# Altium schematic symbol library 74xx.SchLib: 239 symbols (part 1 of 3)
Pins are listed as number, name and electrical type; pins without a type are passive.

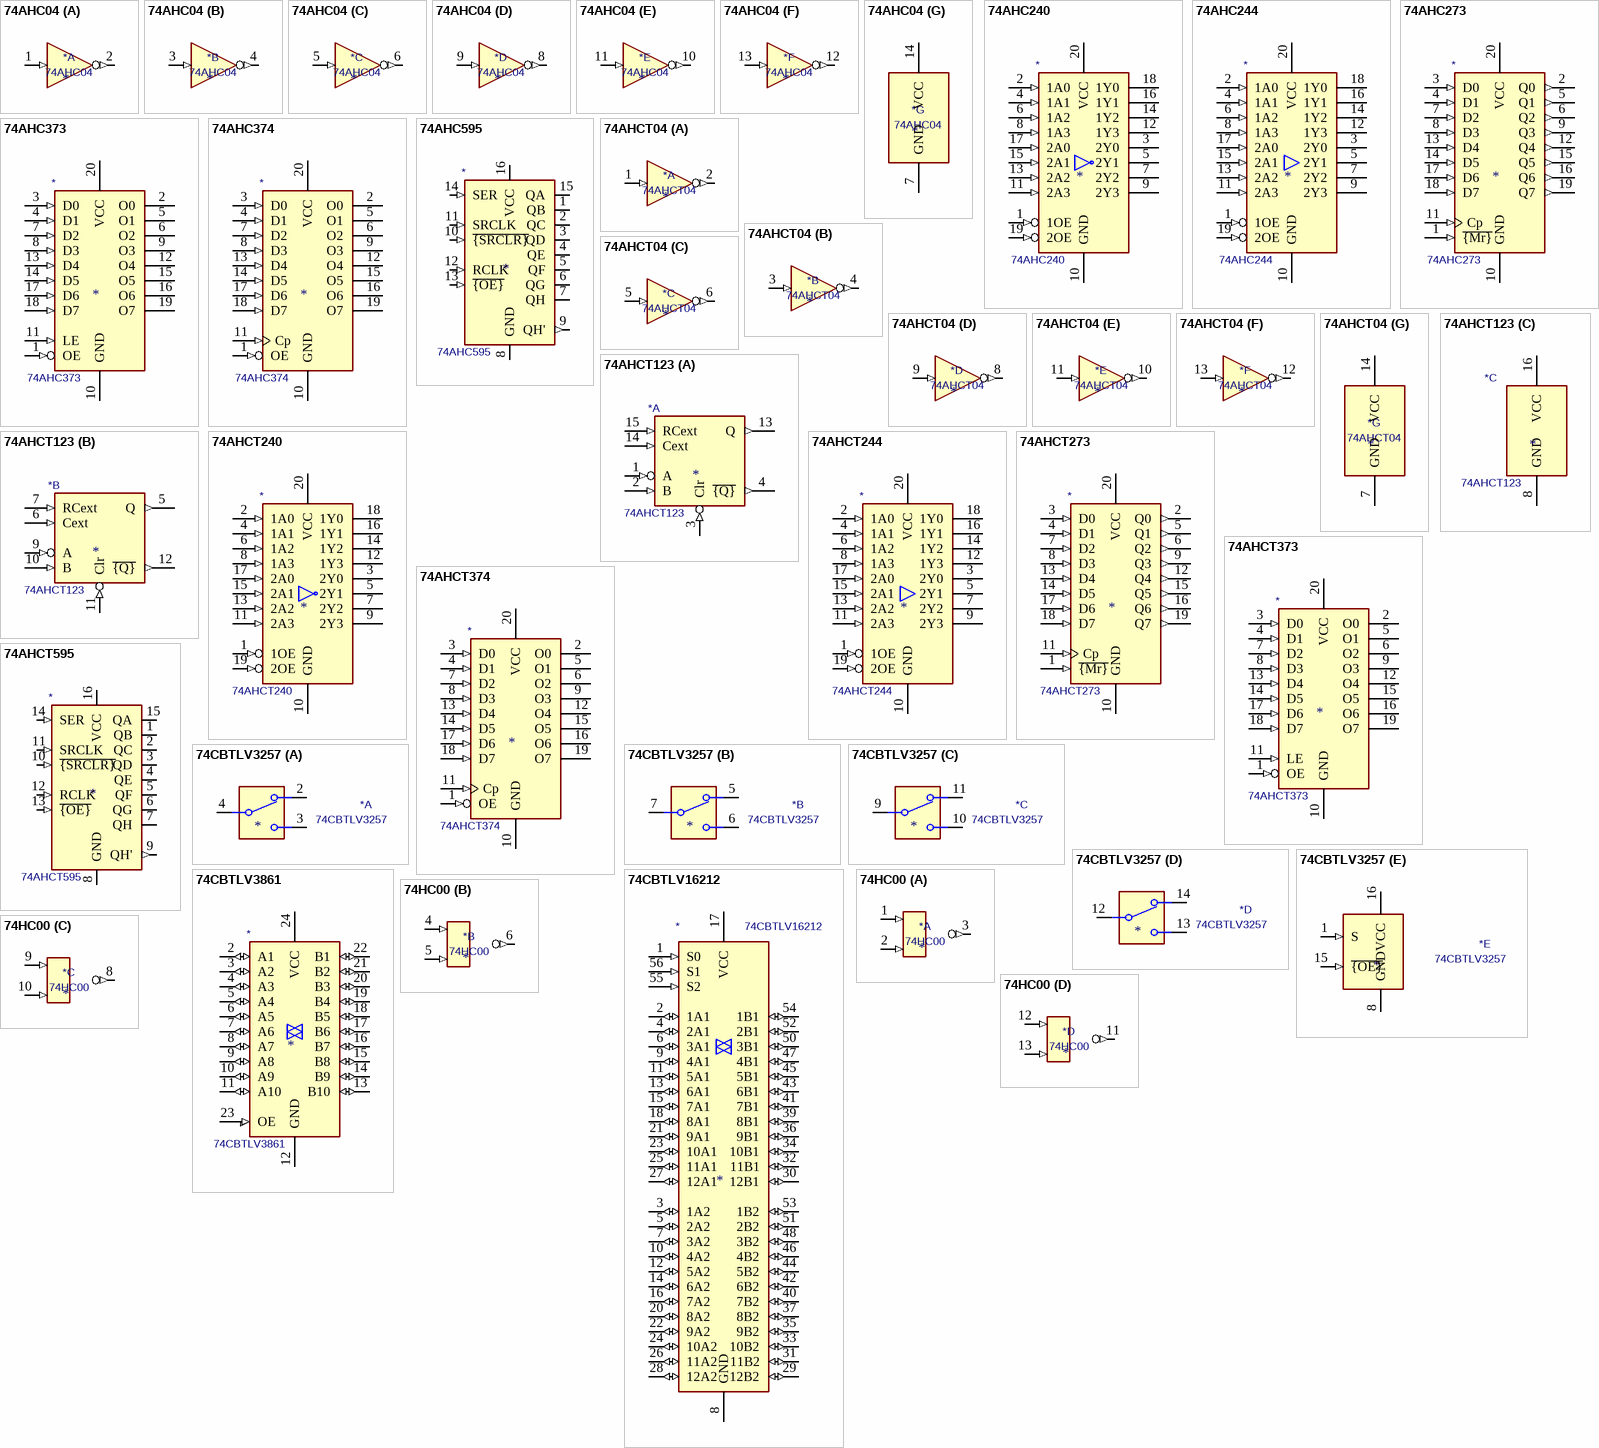
[diagram p0: symbols 74AHC04 to 74HC00]

## 74AHC04
designator *  value 74AHC04
ki_keywords: AHCMOS not inv; ki_description: Hex Inverter; ki_fp_filters: DIP*W7.62mm* SSOP?14* TSSOP?14*; Supplier: https://assets.nexperia.com/documents/data-sheet/74AHC_AHCT04.pdf
part A pins: 1 (in), 2 (out)
part B pins: 3 (in), 4 (out)
part C pins: 5 (in), 6 (out)
part D pins: 8 (out), 9 (in)
part E pins: 10 (out), 11 (in)
part F pins: 12 (out), 13 (in)
part G pins: 7 GND (power), 14 VCC (power)

## 74AHC240
designator *  value 74AHC240
ki_keywords: AHCMOS BUFFER 3State inv; ki_description: 8-bit Buffer/Line Driver 3-state Inverting; ki_fp_filters: DIP*W7.62mm* SOIC*7.5x12.8mm*P1.27mm* TSSOP*4.4x6.5mm*P0.65mm* SSOP*4.4x6.5mm*P0.65mm*; Supplier: https://www.ti.com/lit/ds/symlink/sn54ahc240.pdf
pins: 1 1OE (in), 2 1A0 (in), 3 2Y0 (hiz), 4 1A1 (in), 5 2Y1 (hiz), 6 1A2 (in), 7 2Y2 (hiz), 8 1A3 (in), 9 2Y3 (hiz), 10 GND (power), 11 2A3 (in), 12 1Y3 (hiz), 13 2A2 (in), 14 1Y2 (hiz), 15 2A1 (in), 16 1Y1 (hiz), 17 2A0 (in), 18 1Y0 (hiz), 19 2OE (in), 20 VCC (power)

## 74AHC244
designator *  value 74AHC244
ki_keywords: AHCMOS BUFFER 3State; ki_description: 8-bit Buffer/Line Driver 3-state; ki_fp_filters: TSSOP*4.4x6.5mm*P0.65mm* SSOP*4.4x6.5mm*P0.65mm*; Supplier: https://assets.nexperia.com/documents/data-sheet/74AHC_AHCT244.pdf
pins: 1 1OE (in), 2 1A0 (in), 3 2Y0 (hiz), 4 1A1 (in), 5 2Y1 (hiz), 6 1A2 (in), 7 2Y2 (hiz), 8 1A3 (in), 9 2Y3 (hiz), 10 GND (power), 11 2A3 (in), 12 1Y3 (hiz), 13 2A2 (in), 14 1Y2 (hiz), 15 2A1 (in), 16 1Y1 (hiz), 17 2A0 (in), 18 1Y0 (hiz), 19 2OE (in), 20 VCC (power)

## 74AHC273
designator *  value 74AHC273
ki_keywords: AHCMOS DFF DFF8; ki_description: 8-bit D Flip-Flop, reset; ki_fp_filters: DIP?20* SO?20* SOIC?20*; Supplier: https://assets.nexperia.com/documents/data-sheet/74AHC_AHCT273.pdf
pins: 1 ~{{Mr}} (in), 2 Q0 (out), 3 D0 (in), 4 D1 (in), 5 Q1 (out), 6 Q2 (out), 7 D2 (in), 8 D3 (in), 9 Q3 (out), 10 GND (power), 11 Cp (in), 12 Q4 (out), 13 D4 (in), 14 D5 (in), 15 Q5 (out), 16 Q6 (out), 17 D6 (in), 18 D7 (in), 19 Q7 (out), 20 VCC (power)

## 74AHC373
designator *  value 74AHC373
ki_keywords: AHCMOS REG DFF DFF8 LATCH; ki_description: 8-bit Latch, 3-state outputs; ki_fp_filters: DIP?20* SOIC?20* SO?20* SSOP?20* TSSOP?20*; Supplier: https://assets.nexperia.com/documents/data-sheet/74AHC373.pdf
pins: 1 OE (in), 2 O0 (hiz), 3 D0 (in), 4 D1 (in), 5 O1 (hiz), 6 O2 (hiz), 7 D2 (in), 8 D3 (in), 9 O3 (hiz), 10 GND (power), 11 LE (in), 12 O4 (hiz), 13 D4 (in), 14 D5 (in), 15 O5 (hiz), 16 O6 (hiz), 17 D6 (in), 18 D7 (in), 19 O7 (hiz), 20 VCC (power)

## 74AHC374
designator *  value 74AHC374
ki_keywords: AHCMOS DFF DFF8 REG 3State; ki_description: 8-bit Register, 3-state outputs; ki_fp_filters: DIP?20* SOIC?20* SO?20*; Supplier: https://assets.nexperia.com/documents/data-sheet/74AHC_AHCT374.pdf
pins: 1 OE (in), 2 O0 (hiz), 3 D0 (in), 4 D1 (in), 5 O1 (hiz), 6 O2 (hiz), 7 D2 (in), 8 D3 (in), 9 O3 (hiz), 10 GND (power), 11 Cp (in), 12 O4 (hiz), 13 D4 (in), 14 D5 (in), 15 O5 (hiz), 16 O6 (hiz), 17 D6 (in), 18 D7 (in), 19 O7 (hiz), 20 VCC (power)

## 74AHC595
designator *  value 74AHC595
ki_keywords: AHCMOS SR 3State; ki_description: 8-bit serial in/out Shift Register 3-State Outputs; ki_fp_filters: DIP*W7.62mm* SOIC*3.9x9.9mm*P1.27mm* TSSOP*4.4x5mm*P0.65mm* SOIC*5.3x10.2mm*P1.27mm* SOIC*7.5x10.3mm*P1.27mm*; Supplier: https://assets.nexperia.com/documents/data-sheet/74AHC_AHCT595.pdf
pins: 1 QB (hiz), 2 QC (hiz), 3 QD (hiz), 4 QE (hiz), 5 QF (hiz), 6 QG (hiz), 7 QH (hiz), 8 GND (power), 9 QH' (out), 10 ~{{SRCLR}} (in), 11 SRCLK (in), 12 RCLK (in), 13 ~{{OE}} (in), 14 SER (in), 15 QA (hiz), 16 VCC (power)

## 74AHCT04
designator *  value 74AHCT04
ki_keywords: AHCTMOS not inv; ki_description: Hex Inverter; ki_fp_filters: DIP*W7.62mm* SSOP?14* TSSOP?14*; Supplier: https://assets.nexperia.com/documents/data-sheet/74AHC_AHCT04.pdf
part A pins: 1 (in), 2 (out)
part B pins: 3 (in), 4 (out)
part C pins: 5 (in), 6 (out)
part D pins: 8 (out), 9 (in)
part E pins: 10 (out), 11 (in)
part F pins: 12 (out), 13 (in)
part G pins: 7 GND (power), 14 VCC (power)

## 74AHCT123
designator *  value 74AHCT123
ki_keywords: TTL monostable, multivibrator; ki_description: Dual retriggerable monostable multivibrator; ki_fp_filters: DIP?16*; Supplier: http://www.ti.com/lit/gpn/sn74ahct123a
part A pins: 1 A (in), 2 B (in), 3 Clr (in), 4 ~{{Q}} (out), 13 Q (out), 14 Cext (in), 15 RCext (in)
part B pins: 5 Q (out), 6 Cext (in), 7 RCext (in), 9 A (in), 10 B (in), 11 Clr (in), 12 ~{{Q}} (out)
part C pins: 8 GND (power), 16 VCC (power)

## 74AHCT240
designator *  value 74AHCT240
ki_keywords: AHCTMOS BUFFER 3State inv; ki_description: 8-bit Buffer/Line Driver 3-state Inverting; ki_fp_filters: DIP*W7.62mm* SOIC*7.5x12.8mm*P1.27mm* TSSOP*4.4x6.5mm*P0.65mm* SSOP*4.4x6.5mm*P0.65mm*; Supplier: https://assets.nexperia.com/documents/data-sheet/74AHCT240.pdf
pins: 1 1OE (in), 2 1A0 (in), 3 2Y0 (hiz), 4 1A1 (in), 5 2Y1 (hiz), 6 1A2 (in), 7 2Y2 (hiz), 8 1A3 (in), 9 2Y3 (hiz), 10 GND (power), 11 2A3 (in), 12 1Y3 (hiz), 13 2A2 (in), 14 1Y2 (hiz), 15 2A1 (in), 16 1Y1 (hiz), 17 2A0 (in), 18 1Y0 (hiz), 19 2OE (in), 20 VCC (power)

## 74AHCT244
designator *  value 74AHCT244
ki_keywords: AHCTMOS BUFFER 3State; ki_description: 8-bit Buffer/Line Driver 3-state; ki_fp_filters: TSSOP*4.4x6.5mm*P0.65mm* SSOP*4.4x6.5mm*P0.65mm*; Supplier: https://assets.nexperia.com/documents/data-sheet/74AHC_AHCT244.pdf
pins: 1 1OE (in), 2 1A0 (in), 3 2Y0 (hiz), 4 1A1 (in), 5 2Y1 (hiz), 6 1A2 (in), 7 2Y2 (hiz), 8 1A3 (in), 9 2Y3 (hiz), 10 GND (power), 11 2A3 (in), 12 1Y3 (hiz), 13 2A2 (in), 14 1Y2 (hiz), 15 2A1 (in), 16 1Y1 (hiz), 17 2A0 (in), 18 1Y0 (hiz), 19 2OE (in), 20 VCC (power)

## 74AHCT273
designator *  value 74AHCT273
ki_keywords: AHCTMOS DFF DFF8; ki_description: 8-bit D Flip-Flop, reset; ki_fp_filters: DIP?20* SO?20* SOIC?20*; Supplier: https://assets.nexperia.com/documents/data-sheet/74AHC_AHCT273.pdf
pins: 1 ~{{Mr}} (in), 2 Q0 (out), 3 D0 (in), 4 D1 (in), 5 Q1 (out), 6 Q2 (out), 7 D2 (in), 8 D3 (in), 9 Q3 (out), 10 GND (power), 11 Cp (in), 12 Q4 (out), 13 D4 (in), 14 D5 (in), 15 Q5 (out), 16 Q6 (out), 17 D6 (in), 18 D7 (in), 19 Q7 (out), 20 VCC (power)

## 74AHCT373
designator *  value 74AHCT373
ki_keywords: AHCTMOS REG DFF DFF8 LATCH; ki_description: 8-bit Latch, 3-state outputs; ki_fp_filters: DIP?20* SOIC?20* SO?20* SSOP?20* TSSOP?20*; Supplier: https://www.ti.com/lit/ds/symlink/sn74ahct373.pdf
pins: 1 OE (in), 2 O0 (hiz), 3 D0 (in), 4 D1 (in), 5 O1 (hiz), 6 O2 (hiz), 7 D2 (in), 8 D3 (in), 9 O3 (hiz), 10 GND (power), 11 LE (in), 12 O4 (hiz), 13 D4 (in), 14 D5 (in), 15 O5 (hiz), 16 O6 (hiz), 17 D6 (in), 18 D7 (in), 19 O7 (hiz), 20 VCC (power)

## 74AHCT374
designator *  value 74AHCT374
ki_keywords: AHCTMOS DFF DFF8 REG 3State; ki_description: 8-bit Register, 3-state outputs; ki_fp_filters: DIP?20* SOIC?20* SO?20*; Supplier: https://assets.nexperia.com/documents/data-sheet/74AHC_AHCT374.pdf
pins: 1 OE (in), 2 O0 (hiz), 3 D0 (in), 4 D1 (in), 5 O1 (hiz), 6 O2 (hiz), 7 D2 (in), 8 D3 (in), 9 O3 (hiz), 10 GND (power), 11 Cp (in), 12 O4 (hiz), 13 D4 (in), 14 D5 (in), 15 O5 (hiz), 16 O6 (hiz), 17 D6 (in), 18 D7 (in), 19 O7 (hiz), 20 VCC (power)

## 74AHCT595
designator *  value 74AHCT595
ki_keywords: AHCTMOS SR 3State; ki_description: 8-bit serial in/out Shift Register 3-State Outputs; ki_fp_filters: DIP*W7.62mm* SOIC*3.9x9.9mm*P1.27mm* TSSOP*4.4x5mm*P0.65mm* SOIC*5.3x10.2mm*P1.27mm* SOIC*7.5x10.3mm*P1.27mm*; Supplier: https://assets.nexperia.com/documents/data-sheet/74AHC_AHCT595.pdf
pins: 1 QB (hiz), 2 QC (hiz), 3 QD (hiz), 4 QE (hiz), 5 QF (hiz), 6 QG (hiz), 7 QH (hiz), 8 GND (power), 9 QH' (out), 10 ~{{SRCLR}} (in), 11 SRCLK (in), 12 RCLK (in), 13 ~{{OE}} (in), 14 SER (in), 15 QA (hiz), 16 VCC (power)

## 74CBTLV3257
designator *  value 74CBTLV3257
ki_keywords: mux demux low-voltage; ki_description: Quad 1:2 FET Multiplexer/Demultiplexer, Low-Voltage; ki_fp_filters: SSOP*3.9x4.9mm*P0.635mm* TSSOP*4.4x5mm*P0.65mm* TVSOP*4.4x3.6mm*P0.4mm* SOIC*3.9x9.9mm*P1.27mm*; Supplier: http://www.ti.com/lit/ds/symlink/sn74cbtlv3257.pdf
part A pins: 2, 3, 4
part B pins: 5, 6, 7
part C pins: 9, 10, 11
part D pins: 12, 13, 14
part E pins: 1 S (in), 8 GND (power), 15 ~{{OE}} (in), 16 VCC (power)

## 74CBTLV3861
designator *  value 74CBTLV3861
ki_keywords: bus; ki_description: Low-voltage 10-bit FET Bus switch; ki_fp_filters: DIP?24*; Supplier: http://www.ti.com/lit/gpn/sn74cbtlv3861
pins: 2 A1 (io), 3 A2 (io), 4 A3 (io), 5 A4 (io), 6 A5 (io), 7 A6 (io), 8 A7 (io), 9 A8 (io), 10 A9 (io), 11 A10 (io), 12 GND (power), 13 B10 (io), 14 B9 (io), 15 B8 (io), 16 B7 (io), 17 B6 (io), 18 B5 (io), 19 B4 (io), 20 B3 (io), 21 B2 (io), 22 B1 (io), 23 OE (in), 24 VCC (power)

## 74CBTLV16212
designator *  value 74CBTLV16212
ki_keywords: bus; ki_description: Low-voltage 24-bit FET Bus-exchange switch; ki_fp_filters: SSOP* TSSOP*; Supplier: https://www.ti.com/lit/ds/symlink/sn74cbtlv16212.pdf
pins: 1 S0 (in), 2 1A1 (io), 3 1A2 (io), 4 2A1 (io), 5 2A2 (io), 6 3A1 (io), 7 3A2 (io), 8 GND (power), 9 4A1 (io), 10 4A2 (io), 11 5A1 (io), 12 5A2 (io), 13 6A1 (io), 14 6A2 (io), 15 7A1 (io), 16 7A2 (io), 17 VCC (power), 18 8A1 (io), 19 GND hidden, 20 8A2 (io), 21 9A1 (io), 22 9A2 (io), 23 10A1 (io), 24 10A2 (io), 25 11A1 (io), 26 11A2 (io), 27 12A1 (io), 28 12A2 (io), 29 12B2 (io), 30 12B1 (io), 31 11B2 (io), 32 11B1 (io), 33 10B2 (io), 34 10B1 (io), 35 9B2 (io), 36 9B1 (io), 37 8B2 (io), 38 GND hidden, 39 8B1 (io), 40 7B2 (io), 41 7B1 (io), 42 6B2 (io), 43 6B1 (io), 44 5B2 (io), 45 5B1 (io), 46 4B2 (io), 47 4B1 (io), 48 3B2 (io), 49 GND hidden, 50 3B1 (io), 51 2B2 (io), 52 2B1 (io), 53 1B2 (io), 54 1B1 (io), 55 S2 (in), 56 S1 (in)

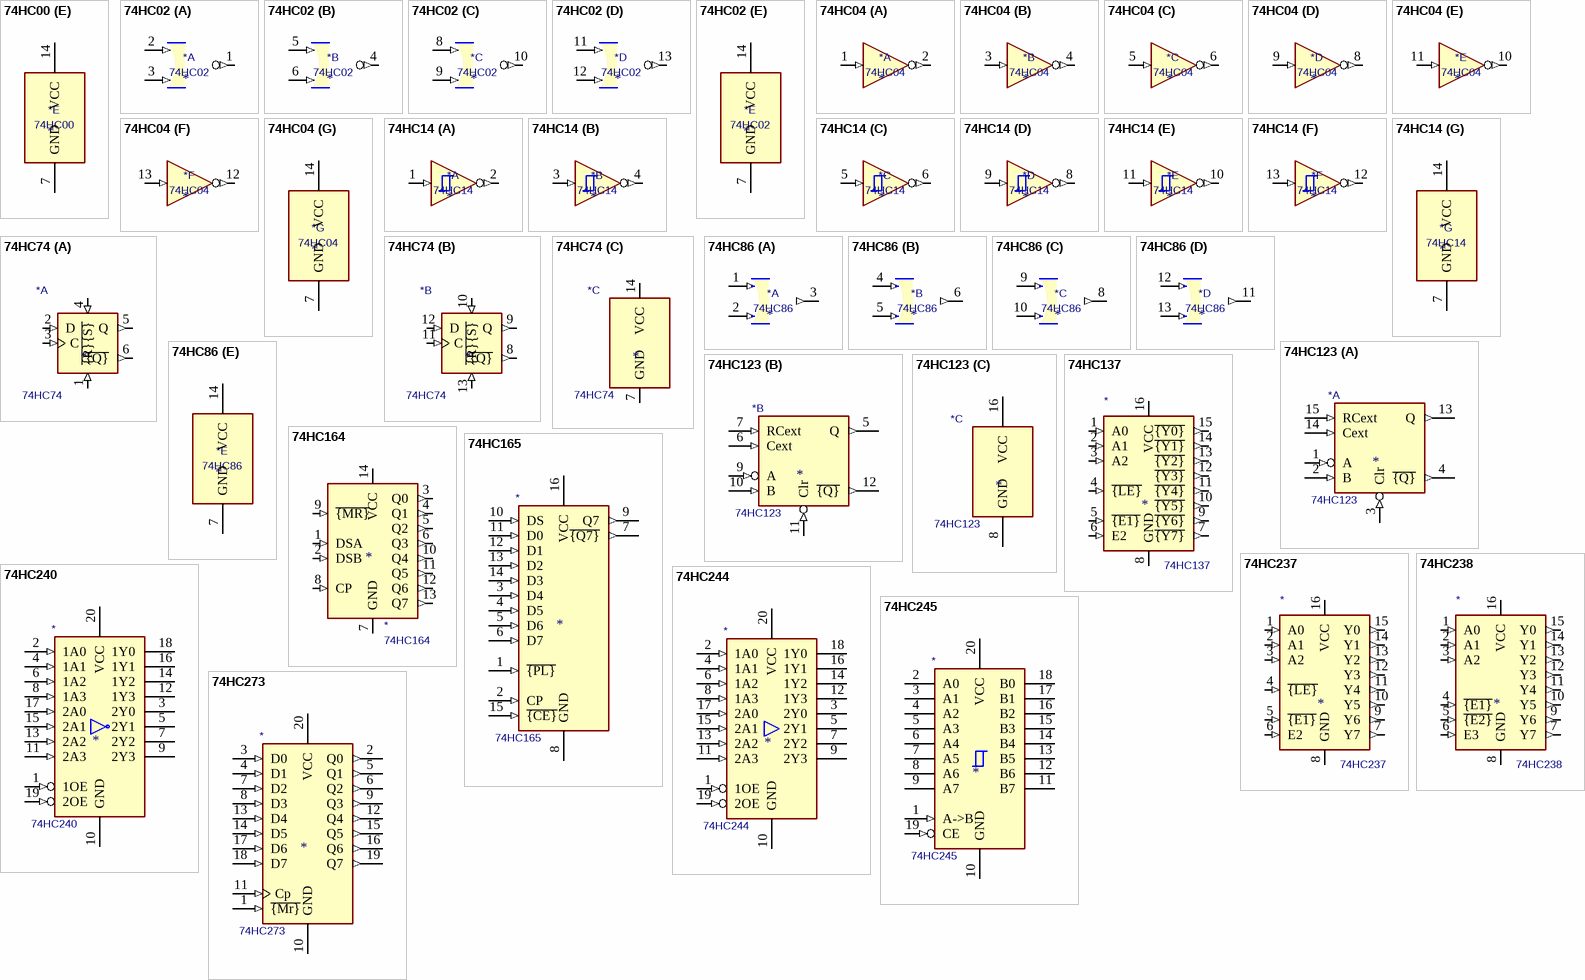
[diagram p1: symbols 74HC00 to 74HC273]

## 74HC00
designator *  value 74HC00
ki_keywords: HCMOS nand 2-input; ki_description: quad 2-input NAND gate; ki_fp_filters: DIP*W7.62mm* SO14*; Supplier: http://www.ti.com/lit/gpn/sn74hc00
part A pins: 1 (in), 2 (in), 3 (out)
part B pins: 4 (in), 5 (in), 6 (out)
part C pins: 8 (out), 9 (in), 10 (in)
part D pins: 11 (out), 12 (in), 13 (in)
part E pins: 7 GND (power), 14 VCC (power)
1 alternate drawing of the same symbol

## 74HC02
designator *  value 74HC02
ki_keywords: HCMOS Nor2; ki_description: quad 2-input NOR gate; ki_fp_filters: SO14* DIP*W7.62mm*; Supplier: http://www.ti.com/lit/gpn/sn74hc02
part A pins: 1 (out), 2 (in), 3 (in)
part B pins: 4 (out), 5 (in), 6 (in)
part C pins: 8 (in), 9 (in), 10 (out)
part D pins: 11 (in), 12 (in), 13 (out)
part E pins: 7 GND (power), 14 VCC (power)
1 alternate drawing of the same symbol

## 74HC04
designator *  value 74HC04
ki_keywords: HCMOS not inv; ki_description: Hex Inverter; ki_fp_filters: DIP*W7.62mm* SSOP?14* TSSOP?14*; Supplier: https://assets.nexperia.com/documents/data-sheet/74HC_HCT04.pdf
part A pins: 1 (in), 2 (out)
part B pins: 3 (in), 4 (out)
part C pins: 5 (in), 6 (out)
part D pins: 8 (out), 9 (in)
part E pins: 10 (out), 11 (in)
part F pins: 12 (out), 13 (in)
part G pins: 7 GND (power), 14 VCC (power)

## 74HC14
designator *  value 74HC14
ki_keywords: HCMOS not inverter; ki_description: Hex inverter schmitt trigger; ki_fp_filters: DIP*W7.62mm*; Supplier: http://www.ti.com/lit/gpn/sn74HC14
part A pins: 1 (in), 2 (out)
part B pins: 3 (in), 4 (out)
part C pins: 5 (in), 6 (out)
part D pins: 8 (out), 9 (in)
part E pins: 10 (out), 11 (in)
part F pins: 12 (out), 13 (in)
part G pins: 7 GND (power), 14 VCC (power)

## 74HC74
designator *  value 74HC74
ki_keywords: TTL DFF; ki_description: Dual D Flip-flop, Set & Reset; ki_fp_filters: DIP*W7.62mm*; Supplier: 74xx/74hc_hct74.pdf
part A pins: 1 ~{{R}} (in), 2 D (in), 3 C (in), 4 ~{{S}} (in), 5 Q (out), 6 ~{{Q}} (out)
part B pins: 8 ~{{Q}} (out), 9 Q (out), 10 ~{{S}} (in), 11 C (in), 12 D (in), 13 ~{{R}} (in)
part C pins: 7 GND (power), 14 VCC (power)

## 74HC86
designator *  value 74HC86
ki_keywords: TTL XOR2; ki_description: Quad 2-input XOR; ki_fp_filters: DIP*W7.62mm*; Supplier: http://www.ti.com/lit/gpn/sn74HC86
part A pins: 1 (in), 2 (in), 3 (out)
part B pins: 4 (in), 5 (in), 6 (out)
part C pins: 8 (out), 9 (in), 10 (in)
part D pins: 11 (out), 12 (in), 13 (in)
part E pins: 7 GND (power), 14 VCC (power)

## 74HC123
designator *  value 74HC123
ki_keywords: TTL monostable, multivibrator; ki_description: Dual retriggerable monostable multivibrator; ki_fp_filters: DIP?16*; Supplier: https://assets.nexperia.com/documents/data-sheet/74HC_HCT123.pdf
part A pins: 1 A (in), 2 B (in), 3 Clr (in), 4 ~{{Q}} (out), 13 Q (out), 14 Cext (in), 15 RCext (in)
part B pins: 5 Q (out), 6 Cext (in), 7 RCext (in), 9 A (in), 10 B (in), 11 Clr (in), 12 ~{{Q}} (out)
part C pins: 8 GND (power), 16 VCC (power)

## 74HC137
designator *  value 74HC137
ki_keywords: demux; ki_description: 3-to-8 line decoder/multiplexer with address latches, DIP-16/SOIC-16/SSOP-16; ki_fp_filters: DIP*W7.62mm* SOIC*3.9x9.9mm*P1.27mm* SSOP*5.3x6.2mm*P0.65mm*; Supplier: http://www.ti.com/lit/ds/symlink/cd74hc237.pdf
pins: 1 A0 (in), 2 A1 (in), 3 A2 (in), 4 ~{{LE}} (in), 5 ~{{E1}} (in), 6 E2 (in), 7 ~{{Y7}} (out), 8 GND (power), 9 ~{{Y6}} (out), 10 ~{{Y5}} (out), 11 ~{{Y4}} (out), 12 ~{{Y3}} (out), 13 ~{{Y2}} (out), 14 ~{{Y1}} (out), 15 ~{{Y0}} (out), 16 VCC (power)

## 74HC164
designator *  value 74HC164
ki_keywords: 8-bit shift register; ki_description: 8-bit serial-in parallel-out shift register; ki_fp_filters: SOIC*3.9x8.7*P1.27mm* ?SSOP*P0.65mm* DIP*W7.62mm*; Supplier: https://assets.nexperia.com/documents/data-sheet/74HC_HCT164.pdf
pins: 1 DSA (in), 2 DSB (in), 3 Q0 (out), 4 Q1 (out), 5 Q2 (out), 6 Q3 (out), 7 GND (power), 8 CP (in), 9 ~{{MR}} (in), 10 Q4 (out), 11 Q5 (out), 12 Q6 (out), 13 Q7 (out), 14 VCC (power)

## 74HC165
designator *  value 74HC165
ki_keywords: 8 bit shift register parallel load cmos; ki_description: Shift Register, 8-bit, Parallel Load; ki_fp_filters: DIP?16* SO*16*3.9x9.9mm*P1.27mm* SSOP*16*5.3x6.2mm*P0.65mm* TSSOP*16*4.4x5mm*P0.65*; Supplier: https://assets.nexperia.com/documents/data-sheet/74HC_HCT165.pdf
pins: 1 ~{{PL}} (in), 2 CP (in), 3 D4 (in), 4 D5 (in), 5 D6 (in), 6 D7 (in), 7 ~{{Q7}} (out), 8 GND (power), 9 Q7 (out), 10 DS (in), 11 D0 (in), 12 D1 (in), 13 D2 (in), 14 D3 (in), 15 ~{{CE}} (in), 16 VCC (power)

## 74HC237
designator *  value 74HC237
ki_keywords: demux; ki_description: 3-to-8 line decoder/multiplexer with address latches, DIP-16/SOIC-16/SSOP-16; ki_fp_filters: DIP*W7.62mm* SOIC*3.9x9.9mm*P1.27mm* SSOP*5.3x6.2mm*P0.65mm*; Supplier: http://www.ti.com/lit/ds/symlink/cd74hc237.pdf
pins: 1 A0 (in), 2 A1 (in), 3 A2 (in), 4 ~{{LE}} (in), 5 ~{{E1}} (in), 6 E2 (in), 7 Y7 (out), 8 GND (power), 9 Y6 (out), 10 Y5 (out), 11 Y4 (out), 12 Y3 (out), 13 Y2 (out), 14 Y1 (out), 15 Y0 (out), 16 VCC (power)

## 74HC238
designator *  value 74HC238
ki_keywords: demux; ki_description: 3-to-8 line decoder/multiplexer, DIP-16/SOIC-16/SSOP-16; ki_fp_filters: DIP*W7.62mm* SOIC*3.9x9.9mm*P1.27mm* TSSOP*4.4x5mm*P0.65mm*; Supplier: https://www.ti.com/lit/ds/symlink/cd74hc238.pdf
pins: 1 A0 (in), 2 A1 (in), 3 A2 (in), 4 ~{{E1}} (in), 5 ~{{E2}} (in), 6 E3 (in), 7 Y7 (out), 8 GND (power), 9 Y6 (out), 10 Y5 (out), 11 Y4 (out), 12 Y3 (out), 13 Y2 (out), 14 Y1 (out), 15 Y0 (out), 16 VCC (power)

## 74HC240
designator *  value 74HC240
ki_keywords: HCMOS BUFFER 3State inv; ki_description: 8-bit Buffer/Line Driver 3-state Inverting; ki_fp_filters: DIP*W7.62mm* SOIC*7.5x12.8mm*P1.27mm* TSSOP*4.4x6.5mm*P0.65mm* SSOP*4.4x6.5mm*P0.65mm*; Supplier: https://assets.nexperia.com/documents/data-sheet/74HC_HCT240.pdf
pins: 1 1OE (in), 2 1A0 (in), 3 2Y0 (hiz), 4 1A1 (in), 5 2Y1 (hiz), 6 1A2 (in), 7 2Y2 (hiz), 8 1A3 (in), 9 2Y3 (hiz), 10 GND (power), 11 2A3 (in), 12 1Y3 (hiz), 13 2A2 (in), 14 1Y2 (hiz), 15 2A1 (in), 16 1Y1 (hiz), 17 2A0 (in), 18 1Y0 (hiz), 19 2OE (in), 20 VCC (power)

## 74HC244
designator *  value 74HC244
ki_keywords: HCMOS BUFFER 3State; ki_description: 8-bit Buffer/Line Driver 3-state; ki_fp_filters: TSSOP*4.4x6.5mm*P0.65mm* SSOP*4.4x6.5mm*P0.65mm*; Supplier: https://assets.nexperia.com/documents/data-sheet/74HC_HCT244.pdf
pins: 1 1OE (in), 2 1A0 (in), 3 2Y0 (hiz), 4 1A1 (in), 5 2Y1 (hiz), 6 1A2 (in), 7 2Y2 (hiz), 8 1A3 (in), 9 2Y3 (hiz), 10 GND (power), 11 2A3 (in), 12 1Y3 (hiz), 13 2A2 (in), 14 1Y2 (hiz), 15 2A1 (in), 16 1Y1 (hiz), 17 2A0 (in), 18 1Y0 (hiz), 19 2OE (in), 20 VCC (power)

## 74HC245
designator *  value 74HC245
ki_keywords: HCMOS BUS 3State; ki_description: Octal BUS Transceivers, 3-State outputs; ki_fp_filters: DIP?20*; Supplier: http://www.ti.com/lit/gpn/sn74HC245
pins: 1 A->B (in), 2 A0 (hiz), 3 A1 (hiz), 4 A2 (hiz), 5 A3 (hiz), 6 A4 (hiz), 7 A5 (hiz), 8 A6 (hiz), 9 A7 (hiz), 10 GND (power), 11 B7 (hiz), 12 B6 (hiz), 13 B5 (hiz), 14 B4 (hiz), 15 B3 (hiz), 16 B2 (hiz), 17 B1 (hiz), 18 B0 (hiz), 19 CE (in), 20 VCC (power)

## 74HC273
designator *  value 74HC273
ki_keywords: HCMOS DFF DFF8; ki_description: 8-bit D Flip-Flop, reset; ki_fp_filters: DIP?20* SO?20* SOIC?20*; Supplier: https://assets.nexperia.com/documents/data-sheet/74HC_HCT273.pdf
pins: 1 ~{{Mr}} (in), 2 Q0 (out), 3 D0 (in), 4 D1 (in), 5 Q1 (out), 6 Q2 (out), 7 D2 (in), 8 D3 (in), 9 Q3 (out), 10 GND (power), 11 Cp (in), 12 Q4 (out), 13 D4 (in), 14 D5 (in), 15 Q5 (out), 16 Q6 (out), 17 D6 (in), 18 D7 (in), 19 Q7 (out), 20 VCC (power)

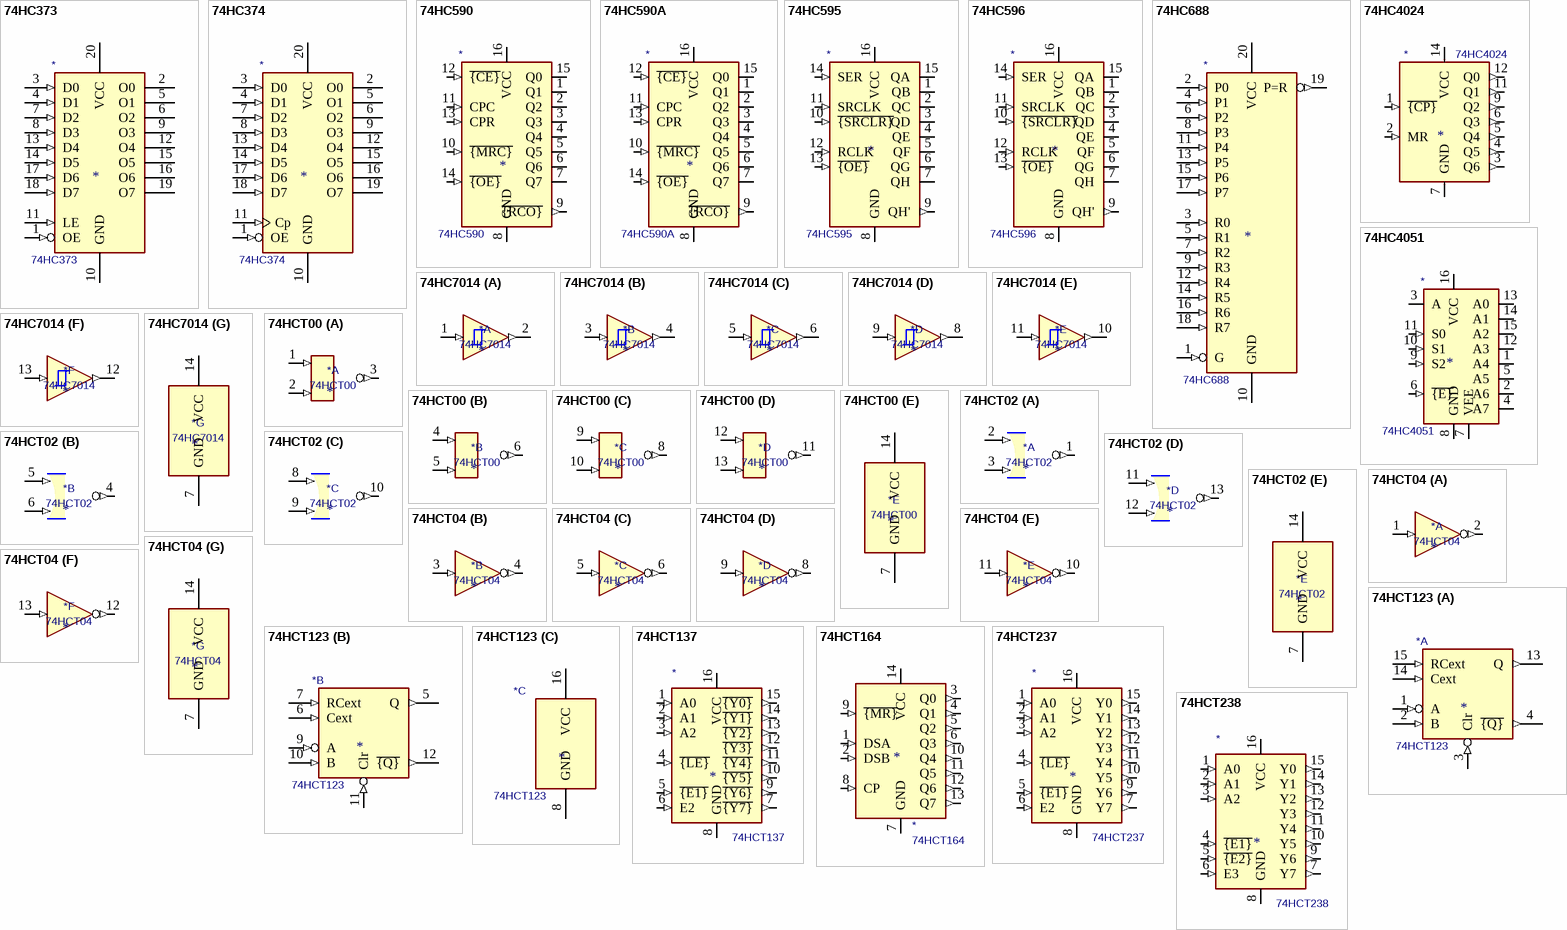
[diagram p2: symbols 74HC373 to 74HCT238]

## 74HC373
designator *  value 74HC373
ki_keywords: HCMOS REG DFF DFF8 LATCH; ki_description: 8-bit Latch, 3-state outputs; ki_fp_filters: DIP?20* SOIC?20* SO?20* SSOP?20* TSSOP?20*; Supplier: https://www.ti.com/lit/ds/symlink/cd54hc373.pdf
pins: 1 OE (in), 2 O0 (hiz), 3 D0 (in), 4 D1 (in), 5 O1 (hiz), 6 O2 (hiz), 7 D2 (in), 8 D3 (in), 9 O3 (hiz), 10 GND (power), 11 LE (in), 12 O4 (hiz), 13 D4 (in), 14 D5 (in), 15 O5 (hiz), 16 O6 (hiz), 17 D6 (in), 18 D7 (in), 19 O7 (hiz), 20 VCC (power)

## 74HC374
designator *  value 74HC374
ki_keywords: HCMOS DFF DFF8 REG 3State; ki_description: 8-bit Register, 3-state outputs; ki_fp_filters: DIP?20* SOIC?20* SO?20*; Supplier: https://www.ti.com/lit/ds/symlink/cd74hct374.pdf
pins: 1 OE (in), 2 O0 (hiz), 3 D0 (in), 4 D1 (in), 5 O1 (hiz), 6 O2 (hiz), 7 D2 (in), 8 D3 (in), 9 O3 (hiz), 10 GND (power), 11 Cp (in), 12 O4 (hiz), 13 D4 (in), 14 D5 (in), 15 O5 (hiz), 16 O6 (hiz), 17 D6 (in), 18 D7 (in), 19 O7 (hiz), 20 VCC (power)

## 74HC590
designator *  value 74HC590
ki_keywords: HCMOS Counter 3State; ki_description: 8-bit Binary Counter with Output Register 3-State Outputs, SOIC-16/TSSOP-16; ki_fp_filters: DIP*W7.62mm* SOIC*3.9x9.9mm*P1.27mm* TSSOP*4.4x5mm*P0.65mm* SOIC*5.3x10.2mm*P1.27mm* SOIC*7.5x10.3mm*P1.27mm*; Supplier: https://assets.nexperia.com/documents/data-sheet/74HC590.pdf
pins: 1 Q1 (hiz), 2 Q2 (hiz), 3 Q3 (hiz), 4 Q4 (hiz), 5 Q5 (hiz), 6 Q6 (hiz), 7 Q7 (hiz), 8 GND (power), 9 ~{{RCO}} (out), 10 ~{{MRC}} (in), 11 CPC (in), 12 ~{{CE}} (in), 13 CPR (in), 14 ~{{OE}} (in), 15 Q0 (hiz), 16 VCC (power)

## 74HC590A
designator *  value 74HC590A
ki_keywords: HCMOS Counter 3State; ki_description: 8-bit Binary Counter with Output Register 3-State Outputs, DIP-16/SOIC-16/SOIC-16W; ki_fp_filters: DIP*W7.62mm* SOIC*3.9x9.9mm*P1.27mm* TSSOP*4.4x5mm*P0.65mm* SOIC*5.3x10.2mm*P1.27mm* SOIC*7.5x10.3mm*P1.27mm*; Supplier: http://www.ti.com/lit/ds/symlink/sn74hc590a.pdf
pins: 1 Q1 (hiz), 2 Q2 (hiz), 3 Q3 (hiz), 4 Q4 (hiz), 5 Q5 (hiz), 6 Q6 (hiz), 7 Q7 (hiz), 8 GND (power), 9 ~{{RCO}} (out), 10 ~{{MRC}} (in), 11 CPC (in), 12 ~{{CE}} (in), 13 CPR (in), 14 ~{{OE}} (in), 15 Q0 (hiz), 16 VCC (power)

## 74HC595
designator *  value 74HC595
ki_keywords: HCMOS SR 3State; ki_description: 8-bit serial in/out Shift Register 3-State Outputs; ki_fp_filters: DIP*W7.62mm* SOIC*3.9x9.9mm*P1.27mm* TSSOP*4.4x5mm*P0.65mm* SOIC*5.3x10.2mm*P1.27mm* SOIC*7.5x10.3mm*P1.27mm*; Supplier: http://www.ti.com/lit/ds/symlink/sn74hc595.pdf
pins: 1 QB (hiz), 2 QC (hiz), 3 QD (hiz), 4 QE (hiz), 5 QF (hiz), 6 QG (hiz), 7 QH (hiz), 8 GND (power), 9 QH' (out), 10 ~{{SRCLR}} (in), 11 SRCLK (in), 12 RCLK (in), 13 ~{{OE}} (in), 14 SER (in), 15 QA (hiz), 16 VCC (power)

## 74HC596
designator *  value 74HC596
ki_keywords: HCMOS SR OpenCollector; ki_description: 8-bit serial in/out Shift Register Open Collector Outputs; ki_fp_filters: DIP*W7.62mm* SOIC*3.9x9.9mm*P1.27mm* TSSOP*4.4x5mm*P0.65mm* SOIC*5.3x10.2mm*P1.27mm* SOIC*7.5x10.3mm*P1.27mm*; Supplier: https://assets.nexperia.com/documents/data-sheet/74HC_HCT595.pdf
pins: 1 QB (oc), 2 QC (oc), 3 QD (oc), 4 QE (oc), 5 QF (oc), 6 QG (oc), 7 QH (oc), 8 GND (power), 9 QH' (out), 10 ~{{SRCLR}} (in), 11 SRCLK (in), 12 RCLK (in), 13 ~{{OE}} (in), 14 SER (in), 15 QA (oc), 16 VCC (power)

## 74HC688
designator *  value 74HC688
ki_keywords: HCMOS DECOD Arith; ki_description: 8-bit magnitude comparator; ki_fp_filters: DIP?20* SOIC?20* SO?20* TSSOP?20*; Supplier: https://www.ti.com/lit/ds/symlink/cd54hc688.pdf
pins: 1 G (in), 2 P0 (in), 3 R0 (in), 4 P1 (in), 5 R1 (in), 6 P2 (in), 7 R2 (in), 8 P3 (in), 9 R3 (in), 10 GND (power), 11 P4 (in), 12 R4 (in), 13 P5 (in), 14 R5 (in), 15 P6 (in), 16 R6 (in), 17 P7 (in), 18 R7 (in), 19 P=R (out), 20 VCC (power)

## 74HC4024
designator *  value 74HC4024
ki_keywords: binary counter; ki_description: 7-stage binary ripple counter, SOIC-14; ki_fp_filters: SOIC*3.9x8.7mm*P1.27mm*; Footprint: Package_SO:SOIC-14_3.9x8.7mm_P1.27mm; Supplier: https://assets.nexperia.com/documents/data-sheet/74HC4024.pdf
footprint SOIC-14_3.9x8.7mm_P1.27mm
pins: 1 ~{{CP}} (in), 2 MR (in), 3 Q6 (out), 4 Q5 (out), 5 Q4 (out), 6 Q3 (out), 7 GND (power), 8 (in) hidden, 9 Q2 (out), 10 (in) hidden, 11 Q1 (out), 12 Q0 (out), 13 (in) hidden, 14 VCC (power)

## 74HC4051
designator *  value 74HC4051
ki_keywords: HCMOS Multiplexer Demultiplexer Analog; ki_description: 8-channel analog multiplexer/demultiplexer, DIP-16/SOIC-16/TSSOP-16; ki_fp_filters: DIP*W7.62mm* SOIC*3.9x9.9mm*P1.27mm* SOIC*5.3x10.2mm*P1.27mm* TSSOP*4.4x5mm*P0.65mm*; Supplier: http://www.ti.com/lit/ds/symlink/cd74hc4051.pdf
pins: 1 A4, 2 A6, 3 A, 4 A7, 5 A5, 6 ~{{E}} (in), 7 VEE (power), 8 GND (power), 9 S2 (in), 10 S1 (in), 11 S0 (in), 12 A3, 13 A0, 14 A1, 15 A2, 16 VCC (power)

## 74HC7014
designator *  value 74HC7014
ki_keywords: Hex non-inverting Schmitt buffer; ki_description: Hex non-inverting buffer with precision Schmitt Trigger inputs, SOIC-14; ki_fp_filters: SOIC*3.9x8.7mm*P1.27mm*; Footprint: Package_SO:SOIC-14_3.9x8.7mm_P1.27mm; Supplier: https://assets.nexperia.com/documents/data-sheet/74HC7014.pdf
footprint SOIC-14_3.9x8.7mm_P1.27mm
part A pins: 1 (in), 2 (out)
part B pins: 3 (in), 4 (out)
part C pins: 5 (in), 6 (out)
part D pins: 8 (out), 9 (in)
part E pins: 10 (out), 11 (in)
part F pins: 12 (out), 13 (in)
part G pins: 7 GND (power), 14 VCC (power)

## 74HCT00
designator *  value 74HCT00
ki_keywords: HCTMOS nand 2-input; ki_description: quad 2-input NAND gate; ki_fp_filters: DIP*W7.62mm* SO14*; Supplier: http://www.ti.com/lit/gpn/sn74hct00
part A pins: 1 (in), 2 (in), 3 (out)
part B pins: 4 (in), 5 (in), 6 (out)
part C pins: 8 (out), 9 (in), 10 (in)
part D pins: 11 (out), 12 (in), 13 (in)
part E pins: 7 GND (power), 14 VCC (power)
1 alternate drawing of the same symbol

## 74HCT02
designator *  value 74HCT02
ki_keywords: HCTMOS Nor2; ki_description: quad 2-input NOR gate; ki_fp_filters: SO14* DIP*W7.62mm*; Supplier: http://www.ti.com/lit/gpn/sn74hct02
part A pins: 1 (out), 2 (in), 3 (in)
part B pins: 4 (out), 5 (in), 6 (in)
part C pins: 8 (in), 9 (in), 10 (out)
part D pins: 11 (in), 12 (in), 13 (out)
part E pins: 7 GND (power), 14 VCC (power)
1 alternate drawing of the same symbol

## 74HCT04
designator *  value 74HCT04
ki_keywords: HCTMOS not inv; ki_description: Hex Inverter; ki_fp_filters: DIP*W7.62mm* SSOP?14* TSSOP?14*; Supplier: https://assets.nexperia.com/documents/data-sheet/74HC_HCT04.pdf
part A pins: 1 (in), 2 (out)
part B pins: 3 (in), 4 (out)
part C pins: 5 (in), 6 (out)
part D pins: 8 (out), 9 (in)
part E pins: 10 (out), 11 (in)
part F pins: 12 (out), 13 (in)
part G pins: 7 GND (power), 14 VCC (power)

## 74HCT123
designator *  value 74HCT123
ki_keywords: TTL monostable, multivibrator; ki_description: Dual retriggerable monostable multivibrator; ki_fp_filters: DIP?16*; Supplier: https://assets.nexperia.com/documents/data-sheet/74HC_HCT123.pdf
part A pins: 1 A (in), 2 B (in), 3 Clr (in), 4 ~{{Q}} (out), 13 Q (out), 14 Cext (in), 15 RCext (in)
part B pins: 5 Q (out), 6 Cext (in), 7 RCext (in), 9 A (in), 10 B (in), 11 Clr (in), 12 ~{{Q}} (out)
part C pins: 8 GND (power), 16 VCC (power)

## 74HCT137
designator *  value 74HCT137
ki_keywords: demux; ki_description: 3-to-8 line decoder/multiplexer with address latches, DIP-16/SOIC-16/SSOP-16; ki_fp_filters: DIP*W7.62mm* SOIC*3.9x9.9mm*P1.27mm* SSOP*5.3x6.2mm*P0.65mm*; Supplier: http://www.ti.com/lit/ds/symlink/cd74hc237.pdf
pins: 1 A0 (in), 2 A1 (in), 3 A2 (in), 4 ~{{LE}} (in), 5 ~{{E1}} (in), 6 E2 (in), 7 ~{{Y7}} (out), 8 GND (power), 9 ~{{Y6}} (out), 10 ~{{Y5}} (out), 11 ~{{Y4}} (out), 12 ~{{Y3}} (out), 13 ~{{Y2}} (out), 14 ~{{Y1}} (out), 15 ~{{Y0}} (out), 16 VCC (power)

## 74HCT164
designator *  value 74HCT164
ki_keywords: 8-bit shift register; ki_description: 8-bit serial-in parallel-out shift register; ki_fp_filters: SOIC*3.9x8.7*P1.27mm* ?SSOP*P0.65mm* DIP*W7.62mm*; Supplier: https://assets.nexperia.com/documents/data-sheet/74HC_HCT164.pdf
pins: 1 DSA (in), 2 DSB (in), 3 Q0 (out), 4 Q1 (out), 5 Q2 (out), 6 Q3 (out), 7 GND (power), 8 CP (in), 9 ~{{MR}} (in), 10 Q4 (out), 11 Q5 (out), 12 Q6 (out), 13 Q7 (out), 14 VCC (power)

## 74HCT237
designator *  value 74HCT237
ki_keywords: demux; ki_description: 3-to-8 line decoder/multiplexer with address latches, DIP-16/SOIC-16/SSOP-16; ki_fp_filters: DIP*W7.62mm* SOIC*3.9x9.9mm*P1.27mm* SSOP*5.3x6.2mm*P0.65mm*; Supplier: http://www.ti.com/lit/ds/symlink/cd74hc237.pdf
pins: 1 A0 (in), 2 A1 (in), 3 A2 (in), 4 ~{{LE}} (in), 5 ~{{E1}} (in), 6 E2 (in), 7 Y7 (out), 8 GND (power), 9 Y6 (out), 10 Y5 (out), 11 Y4 (out), 12 Y3 (out), 13 Y2 (out), 14 Y1 (out), 15 Y0 (out), 16 VCC (power)

## 74HCT238
designator *  value 74HCT238
ki_keywords: demux; ki_description: 3-to-8 line decoder/multiplexer, DIP-16/SOIC-16/SSOP-16; ki_fp_filters: DIP*W7.62mm* SOIC*3.9x9.9mm*P1.27mm* TSSOP*4.4x5mm*P0.65mm*; Supplier: https://www.ti.com/lit/ds/symlink/cd74hc238.pdf
pins: 1 A0 (in), 2 A1 (in), 3 A2 (in), 4 ~{{E1}} (in), 5 ~{{E2}} (in), 6 E3 (in), 7 Y7 (out), 8 GND (power), 9 Y6 (out), 10 Y5 (out), 11 Y4 (out), 12 Y3 (out), 13 Y2 (out), 14 Y1 (out), 15 Y0 (out), 16 VCC (power)

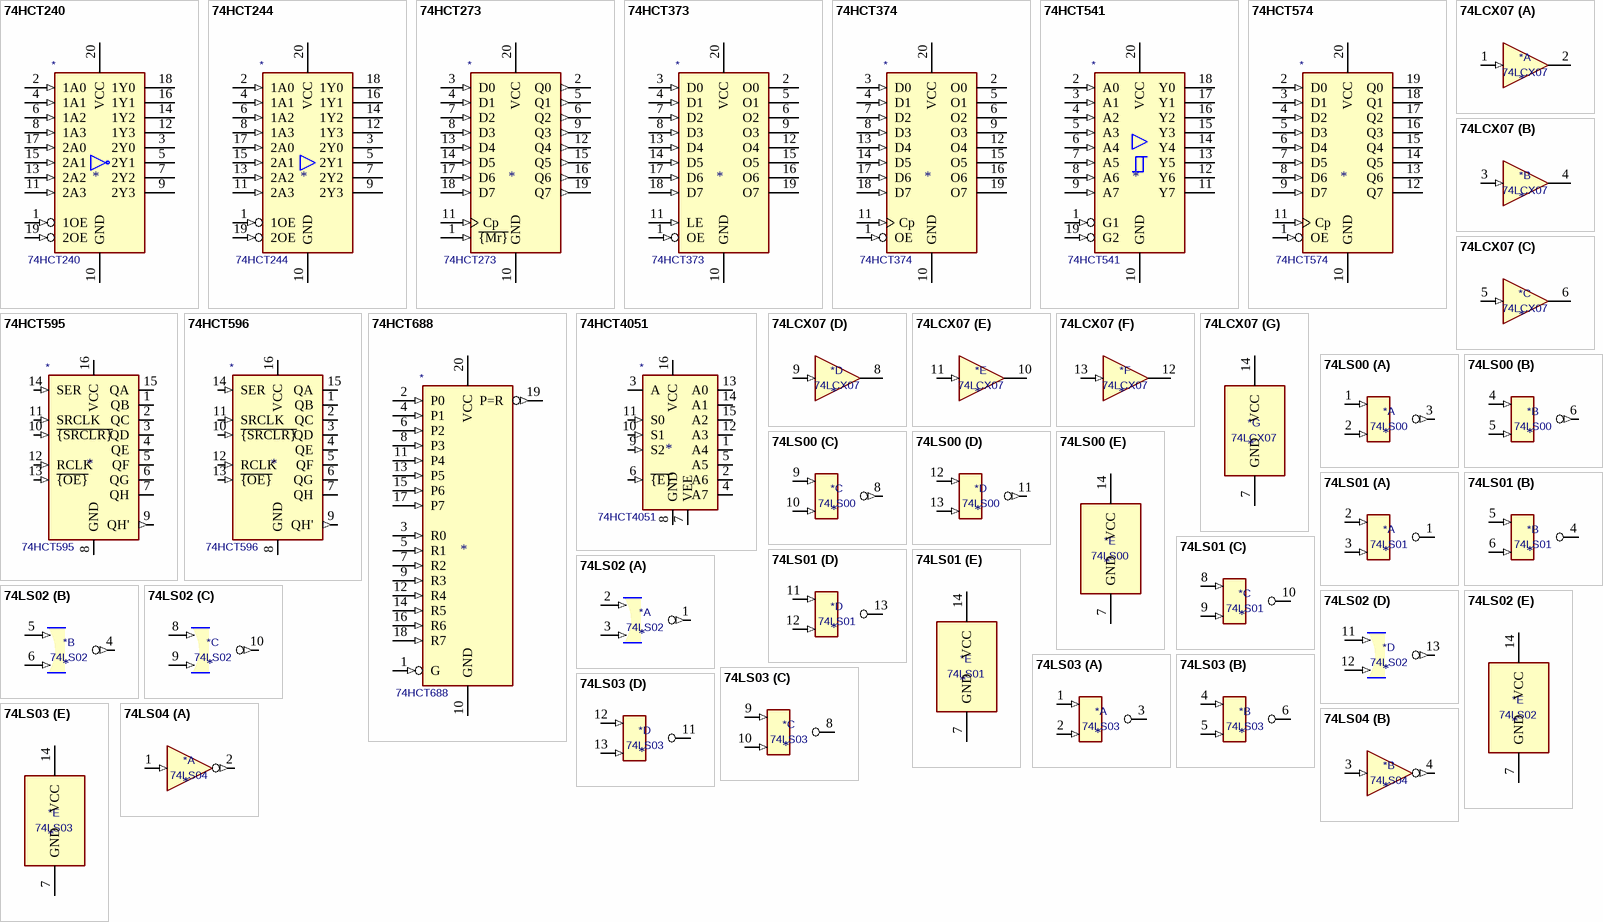
[diagram p3: symbols 74HCT240 to 74LS04]

## 74HCT240
designator *  value 74HCT240
ki_keywords: HCTMOS BUFFER 3State inv; ki_description: 8-bit buffer; 3-state; inverting; ki_fp_filters: DIP*W7.62mm* SOIC*7.5x12.8mm*P1.27mm* TSSOP*4.4x6.5mm*P0.65mm* SSOP*4.4x6.5mm*P0.65mm*; Supplier: https://assets.nexperia.com/documents/data-sheet/74HC_HCT240.pdf
pins: 1 1OE (in), 2 1A0 (in), 3 2Y0 (hiz), 4 1A1 (in), 5 2Y1 (hiz), 6 1A2 (in), 7 2Y2 (hiz), 8 1A3 (in), 9 2Y3 (hiz), 10 GND (power), 11 2A3 (in), 12 1Y3 (hiz), 13 2A2 (in), 14 1Y2 (hiz), 15 2A1 (in), 16 1Y1 (hiz), 17 2A0 (in), 18 1Y0 (hiz), 19 2OE (in), 20 VCC (power)

## 74HCT244
designator *  value 74HCT244
ki_keywords: HCTMOS BUFFER 3State; ki_description: 8-bit Buffer/Line Driver 3-state; ki_fp_filters: TSSOP*4.4x6.5mm*P0.65mm* SSOP*4.4x6.5mm*P0.65mm*; Supplier: https://assets.nexperia.com/documents/data-sheet/74HC_HCT244.pdf
pins: 1 1OE (in), 2 1A0 (in), 3 2Y0 (hiz), 4 1A1 (in), 5 2Y1 (hiz), 6 1A2 (in), 7 2Y2 (hiz), 8 1A3 (in), 9 2Y3 (hiz), 10 GND (power), 11 2A3 (in), 12 1Y3 (hiz), 13 2A2 (in), 14 1Y2 (hiz), 15 2A1 (in), 16 1Y1 (hiz), 17 2A0 (in), 18 1Y0 (hiz), 19 2OE (in), 20 VCC (power)

## 74HCT273
designator *  value 74HCT273
ki_keywords: HCTMOS DFF DFF8; ki_description: 8-bit D Flip-Flop, reset; ki_fp_filters: DIP?20* SO?20* SOIC?20*; Supplier: https://assets.nexperia.com/documents/data-sheet/74HC_HCT273.pdf
pins: 1 ~{{Mr}} (in), 2 Q0 (out), 3 D0 (in), 4 D1 (in), 5 Q1 (out), 6 Q2 (out), 7 D2 (in), 8 D3 (in), 9 Q3 (out), 10 GND (power), 11 Cp (in), 12 Q4 (out), 13 D4 (in), 14 D5 (in), 15 Q5 (out), 16 Q6 (out), 17 D6 (in), 18 D7 (in), 19 Q7 (out), 20 VCC (power)

## 74HCT373
designator *  value 74HCT373
ki_keywords: HCTMOS REG DFF DFF8 LATCH; ki_description: 8-bit Latch, 3-state outputs; ki_fp_filters: DIP?20* SOIC?20* SO?20* SSOP?20* TSSOP?20*; Supplier: https://www.ti.com/lit/ds/symlink/sn74hct373.pdf
pins: 1 OE (in), 2 O0 (hiz), 3 D0 (in), 4 D1 (in), 5 O1 (hiz), 6 O2 (hiz), 7 D2 (in), 8 D3 (in), 9 O3 (hiz), 10 GND (power), 11 LE (in), 12 O4 (hiz), 13 D4 (in), 14 D5 (in), 15 O5 (hiz), 16 O6 (hiz), 17 D6 (in), 18 D7 (in), 19 O7 (hiz), 20 VCC (power)

## 74HCT374
designator *  value 74HCT374
ki_keywords: HCTMOS DFF DFF8 REG 3State; ki_description: 8-bit Register, 3-state outputs; ki_fp_filters: DIP?20* SOIC?20* SO?20*; Supplier: https://www.ti.com/lit/ds/symlink/cd74hct374.pdf
pins: 1 OE (in), 2 O0 (hiz), 3 D0 (in), 4 D1 (in), 5 O1 (hiz), 6 O2 (hiz), 7 D2 (in), 8 D3 (in), 9 O3 (hiz), 10 GND (power), 11 Cp (in), 12 O4 (hiz), 13 D4 (in), 14 D5 (in), 15 O5 (hiz), 16 O6 (hiz), 17 D6 (in), 18 D7 (in), 19 O7 (hiz), 20 VCC (power)

## 74HCT541
designator *  value 74HCT541
ki_keywords: TTL BUFFER 3State BUS; ki_description: 8-bit Buffer/Line Driver 3-state outputs; ki_fp_filters: DIP?20*; Supplier: http://www.ti.com/lit/gpn/sn74HCT541
pins: 1 G1 (in), 2 A0 (in), 3 A1 (in), 4 A2 (in), 5 A3 (in), 6 A4 (in), 7 A5 (in), 8 A6 (in), 9 A7 (in), 10 GND (power), 11 Y7 (hiz), 12 Y6 (hiz), 13 Y5 (hiz), 14 Y4 (hiz), 15 Y3 (hiz), 16 Y2 (hiz), 17 Y1 (hiz), 18 Y0 (hiz), 19 G2 (in), 20 VCC (power)

## 74HCT574
designator *  value 74HCT574
ki_keywords: TTL REG DFF DFF8 3State; ki_description: 8-bit Register, 3-state outputs; ki_fp_filters: DIP?20*; Supplier: http://www.ti.com/lit/gpn/sn74HCT574
pins: 1 OE (in), 2 D0 (in), 3 D1 (in), 4 D2 (in), 5 D3 (in), 6 D4 (in), 7 D5 (in), 8 D6 (in), 9 D7 (in), 10 GND (power), 11 Cp (in), 12 Q7 (hiz), 13 Q6 (hiz), 14 Q5 (hiz), 15 Q4 (hiz), 16 Q3 (hiz), 17 Q2 (hiz), 18 Q1 (hiz), 19 Q0 (hiz), 20 VCC (power)

## 74HCT595
designator *  value 74HCT595
ki_keywords: HCTMOS SR 3State; ki_description: 8-bit serial in/out Shift Register 3-State Outputs; ki_fp_filters: DIP*W7.62mm* SOIC*3.9x9.9mm*P1.27mm* TSSOP*4.4x5mm*P0.65mm* SOIC*5.3x10.2mm*P1.27mm* SOIC*7.5x10.3mm*P1.27mm*; Supplier: https://assets.nexperia.com/documents/data-sheet/74HC_HCT595.pdf
pins: 1 QB (hiz), 2 QC (hiz), 3 QD (hiz), 4 QE (hiz), 5 QF (hiz), 6 QG (hiz), 7 QH (hiz), 8 GND (power), 9 QH' (out), 10 ~{{SRCLR}} (in), 11 SRCLK (in), 12 RCLK (in), 13 ~{{OE}} (in), 14 SER (in), 15 QA (hiz), 16 VCC (power)

## 74HCT596
designator *  value 74HCT596
ki_keywords: HCTMOS SR OpenCollector; ki_description: 8-bit serial in/out Shift Register Open Collector Outputs; ki_fp_filters: DIP*W7.62mm* SOIC*3.9x9.9mm*P1.27mm* TSSOP*4.4x5mm*P0.65mm* SOIC*5.3x10.2mm*P1.27mm* SOIC*7.5x10.3mm*P1.27mm*; Supplier: https://assets.nexperia.com/documents/data-sheet/74HC_HCT595.pdf
pins: 1 QB (oc), 2 QC (oc), 3 QD (oc), 4 QE (oc), 5 QF (oc), 6 QG (oc), 7 QH (oc), 8 GND (power), 9 QH' (out), 10 ~{{SRCLR}} (in), 11 SRCLK (in), 12 RCLK (in), 13 ~{{OE}} (in), 14 SER (in), 15 QA (oc), 16 VCC (power)

## 74HCT688
designator *  value 74HCT688
ki_keywords: HCTMOS DECOD Arith; ki_description: 8-bit magnitude comparator; ki_fp_filters: DIP?20* SOIC?20* SO?20* TSSOP?20*; Supplier: https://www.ti.com/lit/ds/symlink/cd54hc688.pdf
pins: 1 G (in), 2 P0 (in), 3 R0 (in), 4 P1 (in), 5 R1 (in), 6 P2 (in), 7 R2 (in), 8 P3 (in), 9 R3 (in), 10 GND (power), 11 P4 (in), 12 R4 (in), 13 P5 (in), 14 R5 (in), 15 P6 (in), 16 R6 (in), 17 P7 (in), 18 R7 (in), 19 P=R (out), 20 VCC (power)

## 74HCT4051
designator *  value 74HCT4051
ki_keywords: TTL Multiplexer Demultiplexer Analog; ki_description: 8-channel analog multiplexer/demultiplexer, DIP-16/SOIC-16/TSSOP-16; ki_fp_filters: DIP*W7.62mm* SOIC*3.9x9.9mm*P1.27mm* SOIC*5.3x10.2mm*P1.27mm* TSSOP*4.4x5mm*P0.65mm*; Supplier: http://www.ti.com/lit/ds/symlink/cd74hct4051.pdf
pins: 1 A4, 2 A6, 3 A, 4 A7, 5 A5, 6 ~{{E}} (in), 7 VEE (power), 8 GND (power), 9 S2 (in), 10 S1 (in), 11 S0 (in), 12 A3, 13 A0, 14 A1, 15 A2, 16 VCC (power)

## 74LCX07
designator *  value 74LCX07
ki_keywords: CMOS hex buffer; ki_description: CMOS hex buffer (open drain) with 5V tolerant inputs; ki_fp_filters: SOIC*3.9x8.7mm*P1.27mm* TSSOP*4.4x5mm*P0.65mm* DIP*W7.62mm*; Supplier: www.st.com/resource/en/datasheet/74lcx07.pdf
part A pins: 1 (in), 2 (oc)
part B pins: 3 (in), 4 (oc)
part C pins: 5 (in), 6 (oc)
part D pins: 8 (oc), 9 (in)
part E pins: 10 (oc), 11 (in)
part F pins: 12 (oc), 13 (in)
part G pins: 7 GND (power), 14 VCC (power)

## 74LS00
designator *  value 74LS00
ki_keywords: TTL nand 2-input; ki_description: quad 2-input NAND gate; ki_fp_filters: DIP*W7.62mm* SO14*; Supplier: http://www.ti.com/lit/gpn/sn74ls00
part A pins: 1 (in), 2 (in), 3 (out)
part B pins: 4 (in), 5 (in), 6 (out)
part C pins: 8 (out), 9 (in), 10 (in)
part D pins: 11 (out), 12 (in), 13 (in)
part E pins: 7 GND (power), 14 VCC (power)
1 alternate drawing of the same symbol

## 74LS01
designator *  value 74LS01
ki_keywords: TTL nand 2-input open collector; ki_description: quad 2-input NAND gate, open collector outputs NRND; ki_fp_filters: DIP*W7.62mm*; Supplier: http://www.nteinc.com/specs/7400to7499/pdf/nte74LS01.pdf
part A pins: 1 (oc), 2 (in), 3 (in)
part B pins: 4 (oc), 5 (in), 6 (in)
part C pins: 8 (in), 9 (in), 10 (oc)
part D pins: 11 (in), 12 (in), 13 (oc)
part E pins: 7 GND (power), 14 VCC (power)
1 alternate drawing of the same symbol

## 74LS02
designator *  value 74LS02
ki_keywords: TTL Nor2; ki_description: quad 2-input NOR gate; ki_fp_filters: SO14* DIP*W7.62mm*; Supplier: http://www.ti.com/lit/gpn/sn74ls02
part A pins: 1 (out), 2 (in), 3 (in)
part B pins: 4 (out), 5 (in), 6 (in)
part C pins: 8 (in), 9 (in), 10 (out)
part D pins: 11 (in), 12 (in), 13 (out)
part E pins: 7 GND (power), 14 VCC (power)
1 alternate drawing of the same symbol

## 74LS03
designator *  value 74LS03
ki_keywords: TTL Nand2 OpenColl; ki_description: Quad 2-input NAND open collector; ki_fp_filters: DIP*W7.62mm**; Supplier: http://www.ti.com/lit/gpn/sn74LS03
part A pins: 1 (in), 2 (in), 3 (oc)
part B pins: 4 (in), 5 (in), 6 (oc)
part C pins: 8 (oc), 9 (in), 10 (in)
part D pins: 11 (oc), 12 (in), 13 (in)
part E pins: 7 GND (power), 14 VCC (power)
1 alternate drawing of the same symbol

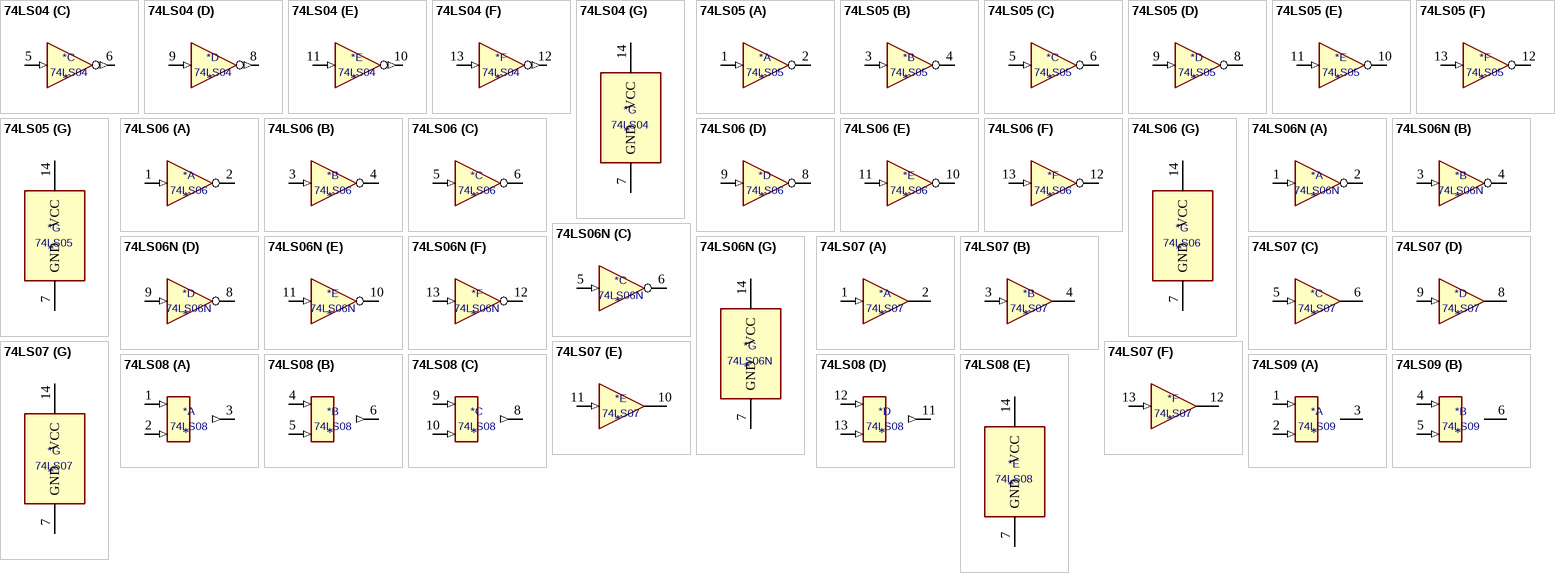
[diagram p4: symbols 74LS04 to 74LS09]

## 74LS04
designator *  value 74LS04
ki_keywords: TTL not inv; ki_description: Hex Inverter; ki_fp_filters: DIP*W7.62mm* SSOP?14* TSSOP?14*; Supplier: http://www.ti.com/lit/gpn/sn74LS04
part A pins: 1 (in), 2 (out)
part B pins: 3 (in), 4 (out)
part C pins: 5 (in), 6 (out)
part D pins: 8 (out), 9 (in)
part E pins: 10 (out), 11 (in)
part F pins: 12 (out), 13 (in)
part G pins: 7 GND (power), 14 VCC (power)

## 74LS05
designator *  value 74LS05
ki_keywords: TTL not inv OpenCol; ki_description: Inverter Open Collect; ki_fp_filters: DIP*W7.62mm*; Supplier: http://www.ti.com/lit/gpn/sn74LS05
part A pins: 1 (in), 2 (oc)
part B pins: 3 (in), 4 (oc)
part C pins: 5 (in), 6 (oc)
part D pins: 8 (oc), 9 (in)
part E pins: 10 (oc), 11 (in)
part F pins: 12 (oc), 13 (in)
part G pins: 7 GND (power), 14 VCC (power)

## 74LS06
designator *  value 74LS06
ki_keywords: TTL not inv OpenCol; ki_description: Inverter Open Collect; ki_fp_filters: DIP*W7.62mm*; Supplier: http://www.ti.com/lit/gpn/sn74LS06
part A pins: 1 (in), 2 (oc)
part B pins: 3 (in), 4 (oc)
part C pins: 5 (in), 6 (oc)
part D pins: 8 (oc), 9 (in)
part E pins: 10 (oc), 11 (in)
part F pins: 12 (oc), 13 (in)
part G pins: 7 GND (power), 14 VCC (power)

## 74LS06N
designator *  value 74LS06N
ki_keywords: TTL not inv OpenCol; ki_description: Inverter Open Collect; ki_fp_filters: DIP*W7.62mm*; Supplier: http://www.ti.com/lit/gpn/sn74LS06N
part A pins: 1 (in), 2 (oc)
part B pins: 3 (in), 4 (oc)
part C pins: 5 (in), 6 (oc)
part D pins: 8 (oc), 9 (in)
part E pins: 10 (oc), 11 (in)
part F pins: 12 (oc), 13 (in)
part G pins: 7 GND (power), 14 VCC (power)

## 74LS07
designator *  value 74LS07
ki_keywords: TTL hex buffer OpenCol; ki_description: Hex Buffers and Drivers With Open Collector High Voltage Outputs; ki_fp_filters: SOIC*3.9x8.7mm*P1.27mm* TSSOP*4.4x5mm*P0.65mm* DIP*W7.62mm*; Supplier: www.ti.com/lit/ds/symlink/sn74ls07.pdf
part A pins: 1 (in), 2 (oc)
part B pins: 3 (in), 4 (oc)
part C pins: 5 (in), 6 (oc)
part D pins: 8 (oc), 9 (in)
part E pins: 10 (oc), 11 (in)
part F pins: 12 (oc), 13 (in)
part G pins: 7 GND (power), 14 VCC (power)

## 74LS08
designator *  value 74LS08
ki_keywords: TTL and2; ki_description: Quad And2; ki_fp_filters: DIP*W7.62mm*; Supplier: http://www.ti.com/lit/gpn/sn74LS08
part A pins: 1 (in), 2 (in), 3 (out)
part B pins: 4 (in), 5 (in), 6 (out)
part C pins: 8 (out), 9 (in), 10 (in)
part D pins: 11 (out), 12 (in), 13 (in)
part E pins: 7 GND (power), 14 VCC (power)
1 alternate drawing of the same symbol

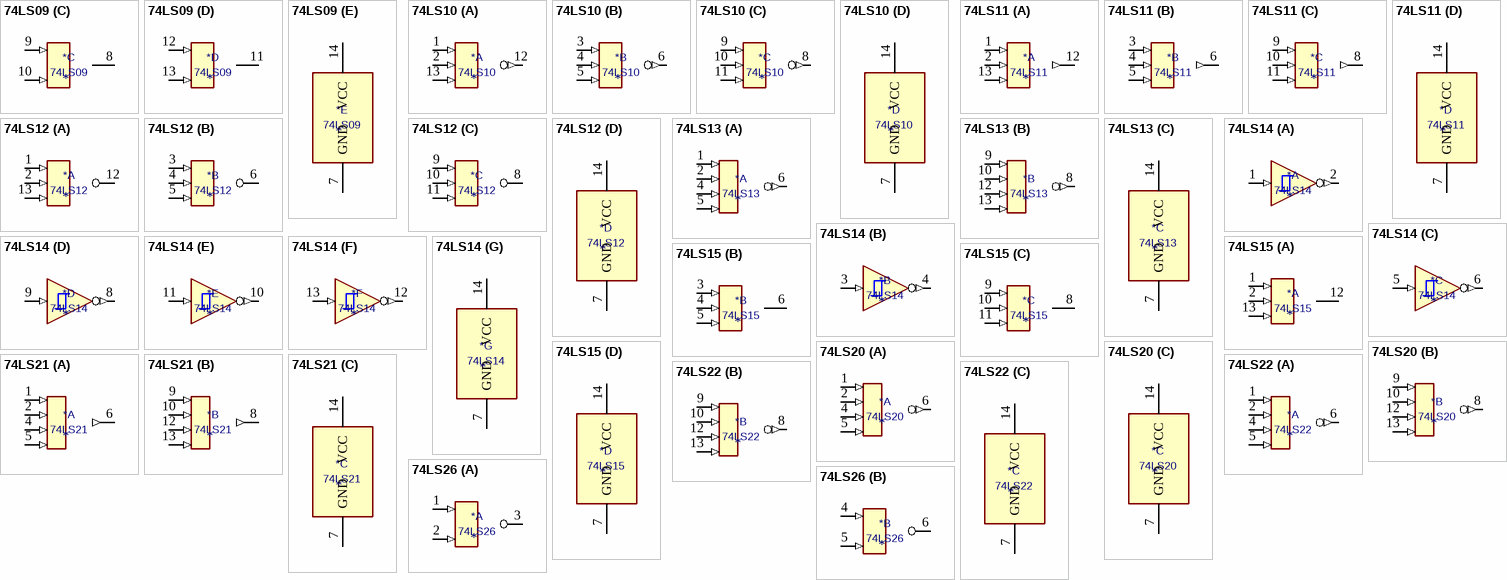
[diagram p5: symbols 74LS09 to 74LS26]

## 74LS09
designator *  value 74LS09
ki_keywords: TTL and2 OpenCol; ki_description: Quad 2-input AND Open Collect; ki_fp_filters: DIP*W7.62mm*; Supplier: http://www.ti.com/lit/gpn/sn74LS09
part A pins: 1 (in), 2 (in), 3 (oc)
part B pins: 4 (in), 5 (in), 6 (oc)
part C pins: 8 (oc), 9 (in), 10 (in)
part D pins: 11 (oc), 12 (in), 13 (in)
part E pins: 7 GND (power), 14 VCC (power)
1 alternate drawing of the same symbol

## 74LS10
designator *  value 74LS10
ki_keywords: TTL Nand3; ki_description: Triple 3-input NAND; ki_fp_filters: DIP*W7.62mm*; Supplier: http://www.ti.com/lit/gpn/sn74LS10
part A pins: 1 (in), 2 (in), 12 (out), 13 (in)
part B pins: 3 (in), 4 (in), 5 (in), 6 (out)
part C pins: 8 (out), 9 (in), 10 (in), 11 (in)
part D pins: 7 GND (power), 14 VCC (power)
1 alternate drawing of the same symbol

## 74LS11
designator *  value 74LS11
ki_keywords: TTL And3; ki_description: Triple 3-input AND; ki_fp_filters: DIP*W7.62mm*; Supplier: http://www.ti.com/lit/gpn/sn74LS11
part A pins: 1 (in), 2 (in), 12 (out), 13 (in)
part B pins: 3 (in), 4 (in), 5 (in), 6 (out)
part C pins: 8 (out), 9 (in), 10 (in), 11 (in)
part D pins: 7 GND (power), 14 VCC (power)
1 alternate drawing of the same symbol

## 74LS12
designator *  value 74LS12
ki_keywords: TTL Nand3 OpenCol; ki_description: Triple 3-input NAND Open Collector; ki_fp_filters: DIP*W7.62mm*; Supplier: http://www.ti.com/lit/gpn/sn74LS12
part A pins: 1 (in), 2 (in), 12 (oc), 13 (in)
part B pins: 3 (in), 4 (in), 5 (in), 6 (oc)
part C pins: 8 (oc), 9 (in), 10 (in), 11 (in)
part D pins: 7 GND (power), 14 VCC (power)
1 alternate drawing of the same symbol

## 74LS13
designator *  value 74LS13
ki_keywords: TTL Nand4; ki_description: Dual 4-input NAND Schmitt trigger; ki_fp_filters: DIP*W7.62mm*; Supplier: http://www.ti.com/lit/gpn/sn74LS13
part A pins: 1 (in), 2 (in), 4 (in), 5 (in), 6 (out)
part B pins: 8 (out), 9 (in), 10 (in), 12 (in), 13 (in)
part C pins: 7 GND (power), 14 VCC (power)
1 alternate drawing of the same symbol

## 74LS14
designator *  value 74LS14
ki_keywords: TTL not inverter; ki_description: Hex inverter schmitt trigger; ki_fp_filters: DIP*W7.62mm*; Supplier: http://www.ti.com/lit/gpn/sn74LS14
part A pins: 1 (in), 2 (out)
part B pins: 3 (in), 4 (out)
part C pins: 5 (in), 6 (out)
part D pins: 8 (out), 9 (in)
part E pins: 10 (out), 11 (in)
part F pins: 12 (out), 13 (in)
part G pins: 7 GND (power), 14 VCC (power)

## 74LS15
designator *  value 74LS15
ki_keywords: TTL And3; ki_description: Triple 3-input AND; ki_fp_filters: DIP*W7.62mm*; Supplier: http://www.ti.com/lit/gpn/sn74LS15
part A pins: 1 (in), 2 (in), 12 (oc), 13 (in)
part B pins: 3 (in), 4 (in), 5 (in), 6 (oc)
part C pins: 8 (oc), 9 (in), 10 (in), 11 (in)
part D pins: 7 GND (power), 14 VCC (power)
1 alternate drawing of the same symbol

## 74LS20
designator *  value 74LS20
ki_keywords: TTL Nand4; ki_description: Dual 4-input NAND; ki_fp_filters: DIP?12*; Supplier: http://www.ti.com/lit/gpn/sn74LS20
part A pins: 1 (in), 2 (in), 4 (in), 5 (in), 6 (out)
part B pins: 8 (out), 9 (in), 10 (in), 12 (in), 13 (in)
part C pins: 7 GND (power), 14 VCC (power)
1 alternate drawing of the same symbol

## 74LS21
designator *  value 74LS21
ki_keywords: TTL And4; ki_description: Dual 4-input AND; ki_fp_filters: DIP?12*; Supplier: http://www.ti.com/lit/gpn/sn74LS21
part A pins: 1 (in), 2 (in), 4 (in), 5 (in), 6 (out)
part B pins: 8 (out), 9 (in), 10 (in), 12 (in), 13 (in)
part C pins: 7 GND (power), 14 VCC (power)
1 alternate drawing of the same symbol

## 74LS22
designator *  value 74LS22
ki_keywords: TTL Nand4 OpenColl; ki_description: Dual 4-input NAND Open Collector; ki_fp_filters: DIP?12*; Supplier: http://www.ti.com/lit/gpn/sn74LS22
part A pins: 1 (in), 2 (in), 4 (in), 5 (in), 6 (out)
part B pins: 8 (out), 9 (in), 10 (in), 12 (in), 13 (in)
part C pins: 7 GND (power), 14 VCC (power)
1 alternate drawing of the same symbol

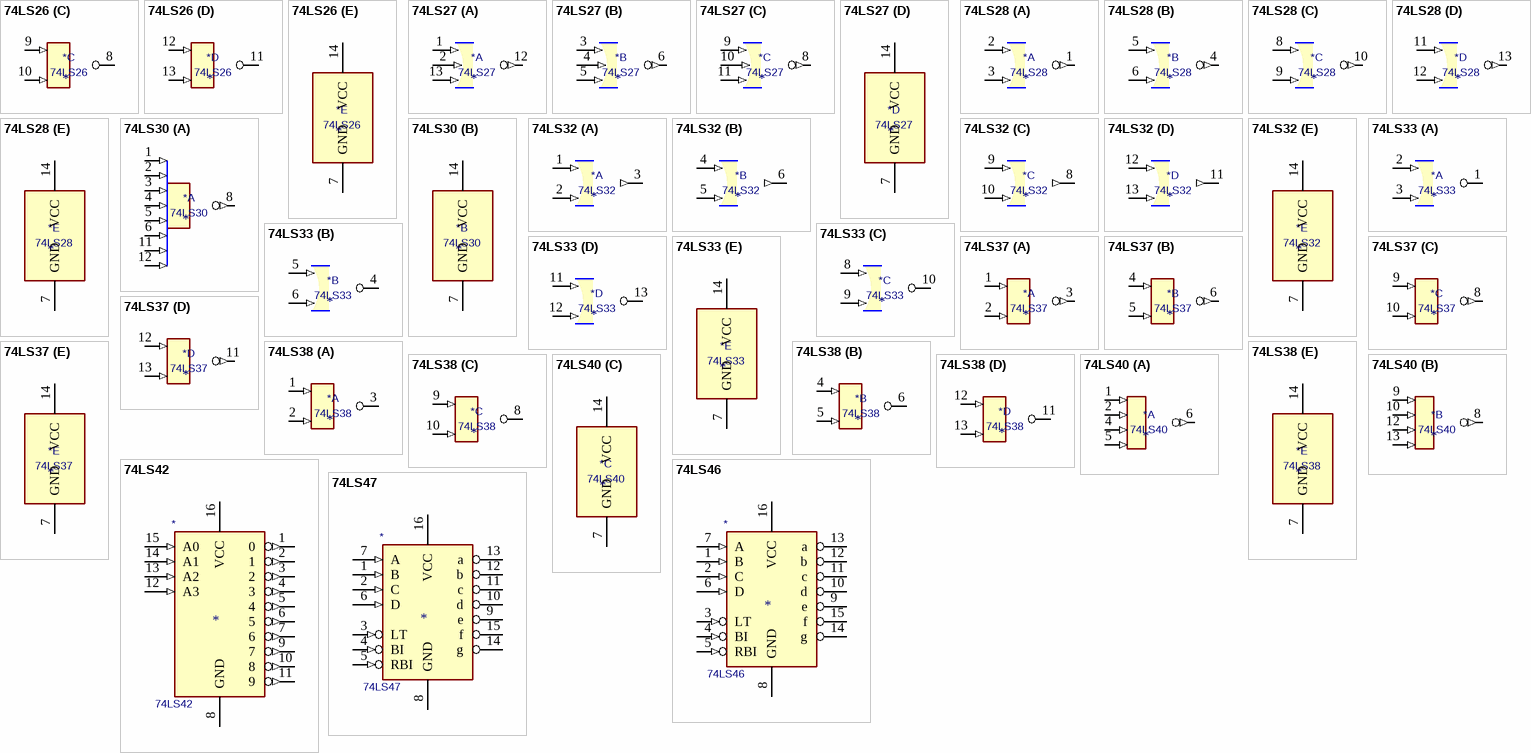
[diagram p6: symbols 74LS26 to 74LS47]

## 74LS26
designator *  value 74LS26
ki_keywords: TTL Nand2 OpenCol; ki_description: Quad 2-input NAND Open collector; ki_fp_filters: DIP*W7.62mm*; Supplier: http://www.ti.com/lit/gpn/sn74LS26
part A pins: 1 (in), 2 (in), 3 (oc)
part B pins: 4 (in), 5 (in), 6 (oc)
part C pins: 8 (oc), 9 (in), 10 (in)
part D pins: 11 (oc), 12 (in), 13 (in)
part E pins: 7 GND (power), 14 VCC (power)
1 alternate drawing of the same symbol

## 74LS27
designator *  value 74LS27
ki_keywords: TTL Nor3; ki_description: Triple 3-input NOR; ki_fp_filters: DIP*W7.62mm*; Supplier: http://www.ti.com/lit/gpn/sn74LS27
part A pins: 1 (in), 2 (in), 12 (out), 13 (in)
part B pins: 3 (in), 4 (in), 5 (in), 6 (out)
part C pins: 8 (out), 9 (in), 10 (in), 11 (in)
part D pins: 7 GND (power), 14 VCC (power)
1 alternate drawing of the same symbol

## 74LS28
designator *  value 74LS28
ki_keywords: TTL Nor2 Buffer; ki_description: quad 2-input NOR buffer NRND; ki_fp_filters: SO14* DIP*W7.62mm*; Supplier: http://eeshop.unl.edu/pdf/74ls28.pdf
part A pins: 1 (out), 2 (in), 3 (in)
part B pins: 4 (out), 5 (in), 6 (in)
part C pins: 8 (in), 9 (in), 10 (out)
part D pins: 11 (in), 12 (in), 13 (out)
part E pins: 7 GND (power), 14 VCC (power)
1 alternate drawing of the same symbol

## 74LS30
designator *  value 74LS30
ki_keywords: TTL Nand8; ki_description: 8-input NAND; ki_fp_filters: DIP*W7.62mm*; Supplier: http://www.ti.com/lit/gpn/sn74LS30
part A pins: 1 (in), 2 (in), 3 (in), 4 (in), 5 (in), 6 (in), 8 (out), 11 (in), 12 (in)
part B pins: 7 GND (power), 14 VCC (power)
1 alternate drawing of the same symbol

## 74LS32
designator *  value 74LS32
ki_keywords: TTL Or2; ki_description: Quad 2-input OR; ki_fp_filters: DIP?14*; Supplier: http://www.ti.com/lit/gpn/sn74LS32
part A pins: 1 (in), 2 (in), 3 (out)
part B pins: 4 (in), 5 (in), 6 (out)
part C pins: 8 (out), 9 (in), 10 (in)
part D pins: 11 (out), 12 (in), 13 (in)
part E pins: 7 GND (power), 14 VCC (power)
1 alternate drawing of the same symbol

## 74LS33
designator *  value 74LS33
ki_keywords: TTL Nor2 OpenColl; ki_description: Quad 2-input NOR, Open collector; ki_fp_filters: DIP*W7.62mm*; Supplier: http://www.ti.com/lit/gpn/sn74LS33
part A pins: 1 (oc), 2 (in), 3 (in)
part B pins: 4 (oc), 5 (in), 6 (in)
part C pins: 8 (in), 9 (in), 10 (oc)
part D pins: 11 (in), 12 (in), 13 (oc)
part E pins: 7 GND (power), 14 VCC (power)
1 alternate drawing of the same symbol

## 74LS37
designator *  value 74LS37
ki_keywords: TTL nand 2-input buffer; ki_description: quad 2-input NAND buffer; ki_fp_filters: DIP*W7.62mm* SO14*; Supplier: http://www.ti.com/lit/gpn/sn74ls37
part A pins: 1 (in), 2 (in), 3 (out)
part B pins: 4 (in), 5 (in), 6 (out)
part C pins: 8 (out), 9 (in), 10 (in)
part D pins: 11 (out), 12 (in), 13 (in)
part E pins: 7 GND (power), 14 VCC (power)
1 alternate drawing of the same symbol

## 74LS38
designator *  value 74LS38
ki_keywords: TTL Nand2 OpenCol Buffer; ki_description: Quad Buffer 2-input NAND Open collector; ki_fp_filters: DIP*W7.62mm*; Supplier: http://www.ti.com/lit/gpn/sn74LS38
part A pins: 1 (in), 2 (in), 3 (oc)
part B pins: 4 (in), 5 (in), 6 (oc)
part C pins: 8 (oc), 9 (in), 10 (in)
part D pins: 11 (oc), 12 (in), 13 (in)
part E pins: 7 GND (power), 14 VCC (power)
1 alternate drawing of the same symbol

## 74LS40
designator *  value 74LS40
ki_keywords: TTL Nand4; ki_description: Dual 4-input NAND; ki_fp_filters: DIP?12*; Supplier: http://www.ti.com/lit/gpn/sn74LS40
part A pins: 1 (in), 2 (in), 4 (in), 5 (in), 6 (out)
part B pins: 8 (out), 9 (in), 10 (in), 12 (in), 13 (in)
part C pins: 7 GND (power), 14 VCC (power)
1 alternate drawing of the same symbol

## 74LS42
designator *  value 74LS42
ki_keywords: TTL DECOD DECOD10; ki_description: 4 to 10 line Decoder; ki_fp_filters: DIP?16*; Supplier: http://www.ti.com/lit/gpn/sn74LS42
pins: 1 0 (out), 2 1 (out), 3 2 (out), 4 3 (out), 5 4 (out), 6 5 (out), 7 6 (out), 8 GND (power), 9 7 (out), 10 8 (out), 11 9 (out), 12 A3 (in), 13 A2 (in), 14 A1 (in), 15 A0 (in), 16 VCC (power)

## 74LS46
designator *  value 74LS46
ki_keywords: TTL DECOD DECOD7 OpenCol; ki_description: BCD to 7-segment Driver, Open Collector, 15V outputs; ki_fp_filters: DIP?16*; Supplier: http://www.ti.com/lit/gpn/sn74LS46
pins: 1 B (in), 2 C (in), 3 LT (in), 4 BI (in), 5 RBI (in), 6 D (in), 7 A (in), 8 GND (power), 9 e (oc), 10 d (oc), 11 c (oc), 12 b (oc), 13 a (oc), 14 g (oc), 15 f (oc), 16 VCC (power)

## 74LS47
designator *  value 74LS47
ki_keywords: TTL DECOD DECOD7 OpenCol; ki_description: BCD to 7-segment Driver, Open Collector, 30V outputs; ki_fp_filters: DIP?16*; Supplier: http://www.ti.com/lit/gpn/sn74LS47
pins: 1 B (in), 2 C (in), 3 LT (in), 4 BI (in), 5 RBI (in), 6 D (in), 7 A (in), 8 GND (power), 9 e (oc), 10 d (oc), 11 c (oc), 12 b (oc), 13 a (oc), 14 g (oc), 15 f (oc), 16 VCC (power)

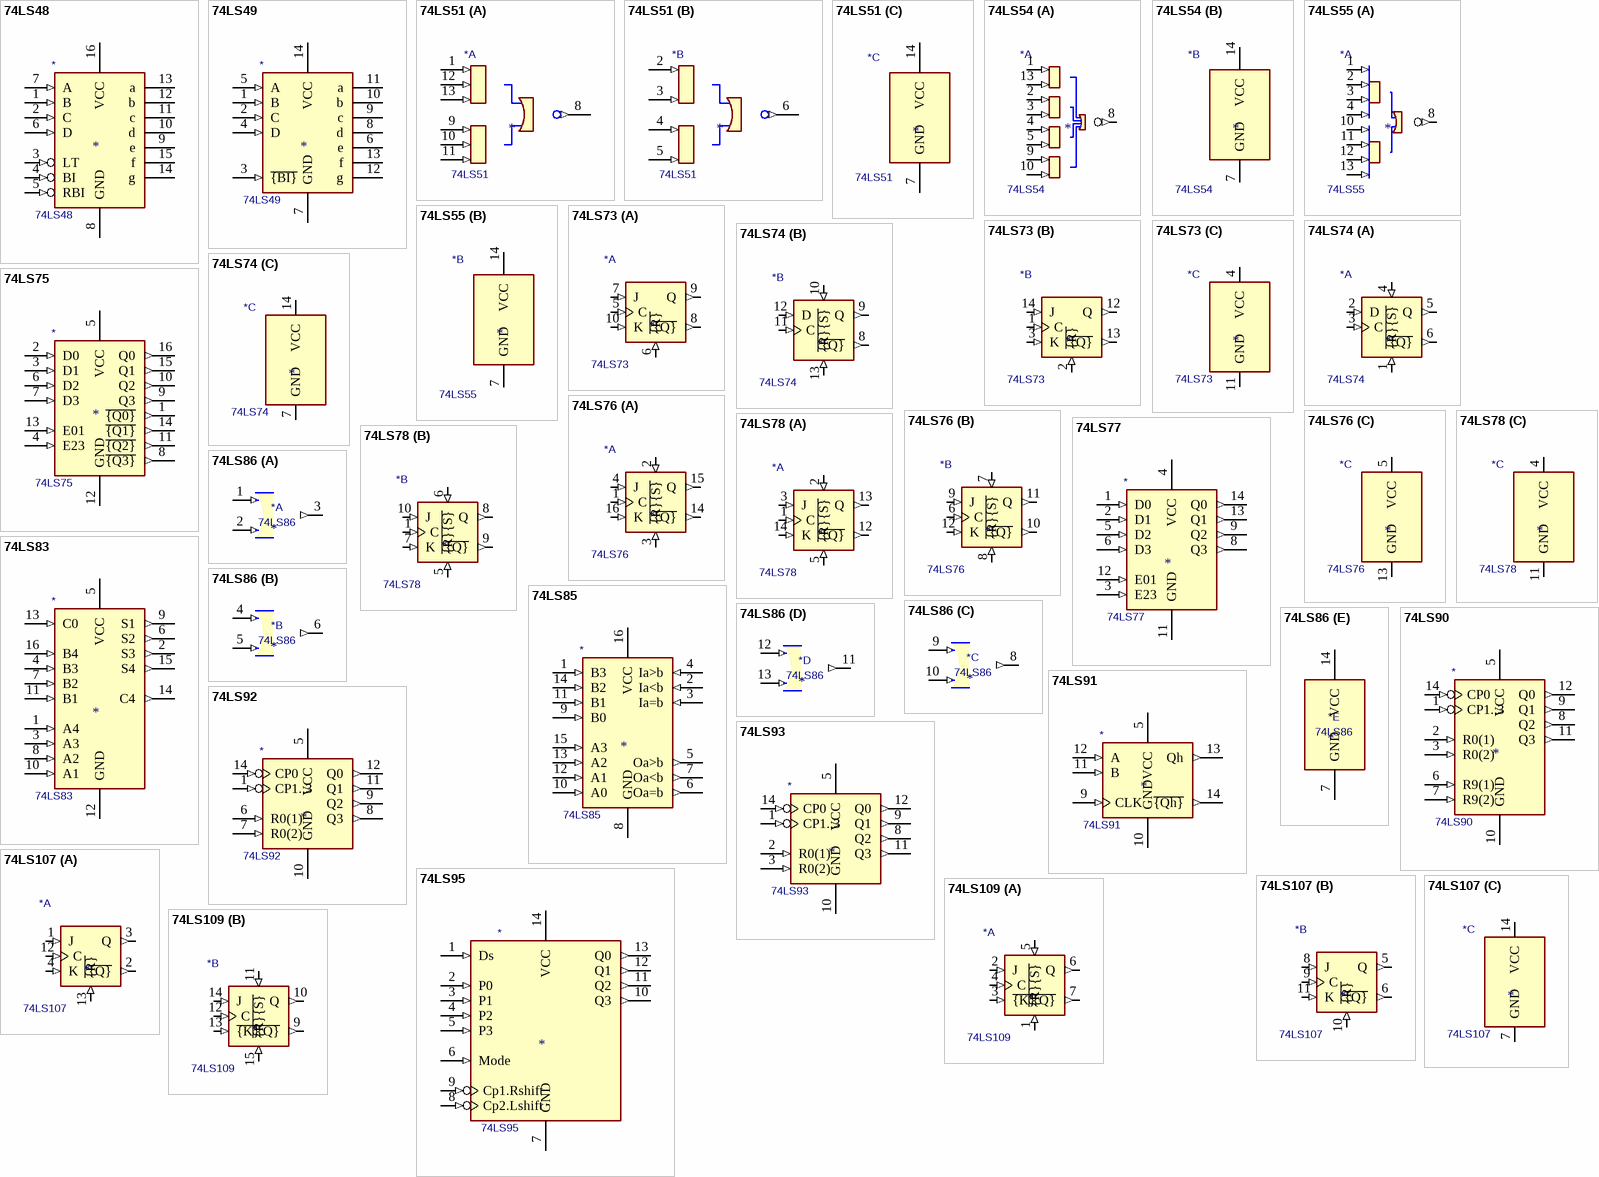
[diagram p7: symbols 74LS48 to 74LS109]

## 74LS48
designator *  value 74LS48
ki_keywords: TTL DECOD DECOD7; ki_description: BCD to 7-segment Decoder/driver, Active High outputs; ki_fp_filters: DIP?16*; Supplier: http://www.ti.com/lit/gpn/sn74LS48
pins: 1 B (in), 2 C (in), 3 LT (in), 4 BI (in), 5 RBI (in), 6 D (in), 7 A (in), 8 GND (power), 9 e (oc), 10 d (oc), 11 c (oc), 12 b (oc), 13 a (oc), 14 g (oc), 15 f (oc), 16 VCC (power)

## 74LS49
designator *  value 74LS49
ki_keywords: TTL DECOD DECOD7 OpenCol; ki_description: BCD to 7-segment decoder/driver, Open collector; ki_fp_filters: DIP*W7.62mm*; Supplier: http://www.ti.com/lit/gpn/sn74ls47
pins: 1 B (in), 2 C (in), 3 ~{{BI}} (in), 4 D (in), 5 A (in), 6 e (oc), 7 GND (power), 8 d (oc), 9 c (oc), 10 b (oc), 11 a (oc), 12 g (oc), 13 f (oc), 14 VCC (power)

## 74LS51
designator *  value 74LS51
ki_keywords: TTL ANDNOR; ki_description: Dual 3- and 2-input AND-NOR ( S = /(AB[C] + DE[F]) ); ki_fp_filters: DIP*W7.62mm*; Supplier: http://www.ti.com/lit/ds/symlink/sn74ls51.pdf
part A pins: 1 (in), 8 (out), 9 (in), 10 (in), 11 (in), 12 (in), 13 (in)
part B pins: 2 (in), 3 (in), 4 (in), 5 (in), 6 (out)
part C pins: 7 GND (power), 14 VCC (power)

## 74LS54
designator *  value 74LS54
ki_keywords: TTL ANDNOR; ki_description: And-Nor (S = /(AB + CD + EF + GH) ); ki_fp_filters: DIP*W7.62mm*; Supplier: http://www.ti.com/lit/gpn/sn74LS54
part A pins: 1 (in), 2 (in), 3 (in), 4 (in), 5 (in), 8 (out), 9 (in), 10 (in), 13 (in)
part B pins: 7 GND (power), 14 VCC (power)

## 74LS55
designator *  value 74LS55
ki_keywords: TTL ANDNOR; ki_description: AND-NOR ( S = / (ABCD + EFGH) ); ki_fp_filters: DIP*W7.62mm*; Supplier: http://www.ti.com/lit/gpn/sn74LS55
part A pins: 1 (in), 2 (in), 3 (in), 4 (in), 8 (out), 10 (in), 11 (in), 12 (in), 13 (in)
part B pins: 7 GND (power), 14 VCC (power)

## 74LS73
designator *  value 74LS73
ki_keywords: TTL JK JKFF; ki_description: Dual JK Flip-Flop, reset; ki_fp_filters: DIP*W7.62mm*; Supplier: http://www.ti.com/lit/gpn/sn74LS73
part A pins: 5 C (in), 6 ~{{R}} (in), 7 J (in), 8 ~{{Q}} (out), 9 Q (out), 10 K (in)
part B pins: 1 C (in), 2 ~{{R}} (in), 3 K (in), 12 Q (out), 13 ~{{Q}} (out), 14 J (in)
part C pins: 4 VCC (power), 11 GND (power)

## 74LS74
designator *  value 74LS74
ki_keywords: TTL DFF; ki_description: Dual D Flip-flop, Set & Reset; ki_fp_filters: DIP*W7.62mm*; Supplier: 74xx/74hc_hct74.pdf
part A pins: 1 ~{{R}} (in), 2 D (in), 3 C (in), 4 ~{{S}} (in), 5 Q (out), 6 ~{{Q}} (out)
part B pins: 8 ~{{Q}} (out), 9 Q (out), 10 ~{{S}} (in), 11 C (in), 12 D (in), 13 ~{{R}} (in)
part C pins: 7 GND (power), 14 VCC (power)

## 74LS75
designator *  value 74LS75
ki_keywords: TTL DFF Latch; ki_description: 4-bit Latch; ki_fp_filters: DIP?16*; Supplier: http://www.ti.com/lit/gpn/sn74LS75
pins: 1 ~{{Q0}} (out), 2 D0 (in), 3 D1 (in), 4 E23 (in), 5 VCC (power), 6 D2 (in), 7 D3 (in), 8 ~{{Q3}} (out), 9 Q3 (out), 10 Q2 (out), 11 ~{{Q2}} (out), 12 GND (power), 13 E01 (in), 14 ~{{Q1}} (out), 15 Q1 (out), 16 Q0 (out)

## 74LS76
designator *  value 74LS76
ki_keywords: TTL JK JKFF; ki_description: Dual JK Flip-flop, Set & Reset; ki_fp_filters: DIP?16*; Supplier: http://www.ti.com/lit/gpn/sn74LS76
part A pins: 1 C (in), 2 ~{{S}} (in), 3 ~{{R}} (in), 4 J (in), 14 ~{{Q}} (out), 15 Q (out), 16 K (in)
part B pins: 6 C (in), 7 ~{{S}} (in), 8 ~{{R}} (in), 9 J (in), 10 ~{{Q}} (out), 11 Q (out), 12 K (in)
part C pins: 5 VCC (power), 13 GND (power)

## 74LS77
designator *  value 74LS77
ki_keywords: TTL DFF Latch; ki_description: 4-bit Latch; ki_fp_filters: DIP?12*; Supplier: http://www.ti.com/lit/gpn/sn74LS77
pins: 1 D0 (in), 2 D1 (in), 3 E23 (in), 4 VCC (power), 5 D2 (in), 6 D3 (in), 8 Q3 (out), 9 Q2 (out), 11 GND (power), 12 E01 (in), 13 Q1 (out), 14 Q0 (out)

## 74LS78
designator *  value 74LS78
ki_keywords: TTL JK JKFF; ki_description: Dual JK Flip-flop, Set, Common clock & reset; ki_fp_filters: DIP*W7.62mm*; Supplier: http://www.ti.com/lit/gpn/sn74LS78
part A pins: 1 C (in), 2 ~{{S}} (in), 3 J (in), 5 ~{{R}} (in), 12 ~{{Q}} (out), 13 Q (out), 14 K (in)
part B pins: 1 C (in), 5 ~{{R}} (in), 6 ~{{S}} (in), 7 K (in), 8 Q (out), 9 ~{{Q}} (out), 10 J (in)
part C pins: 4 VCC (power), 11 GND (power)